# Altium schematic symbol library Ixora.SchLib: 333 symbols (part 2 of 3)
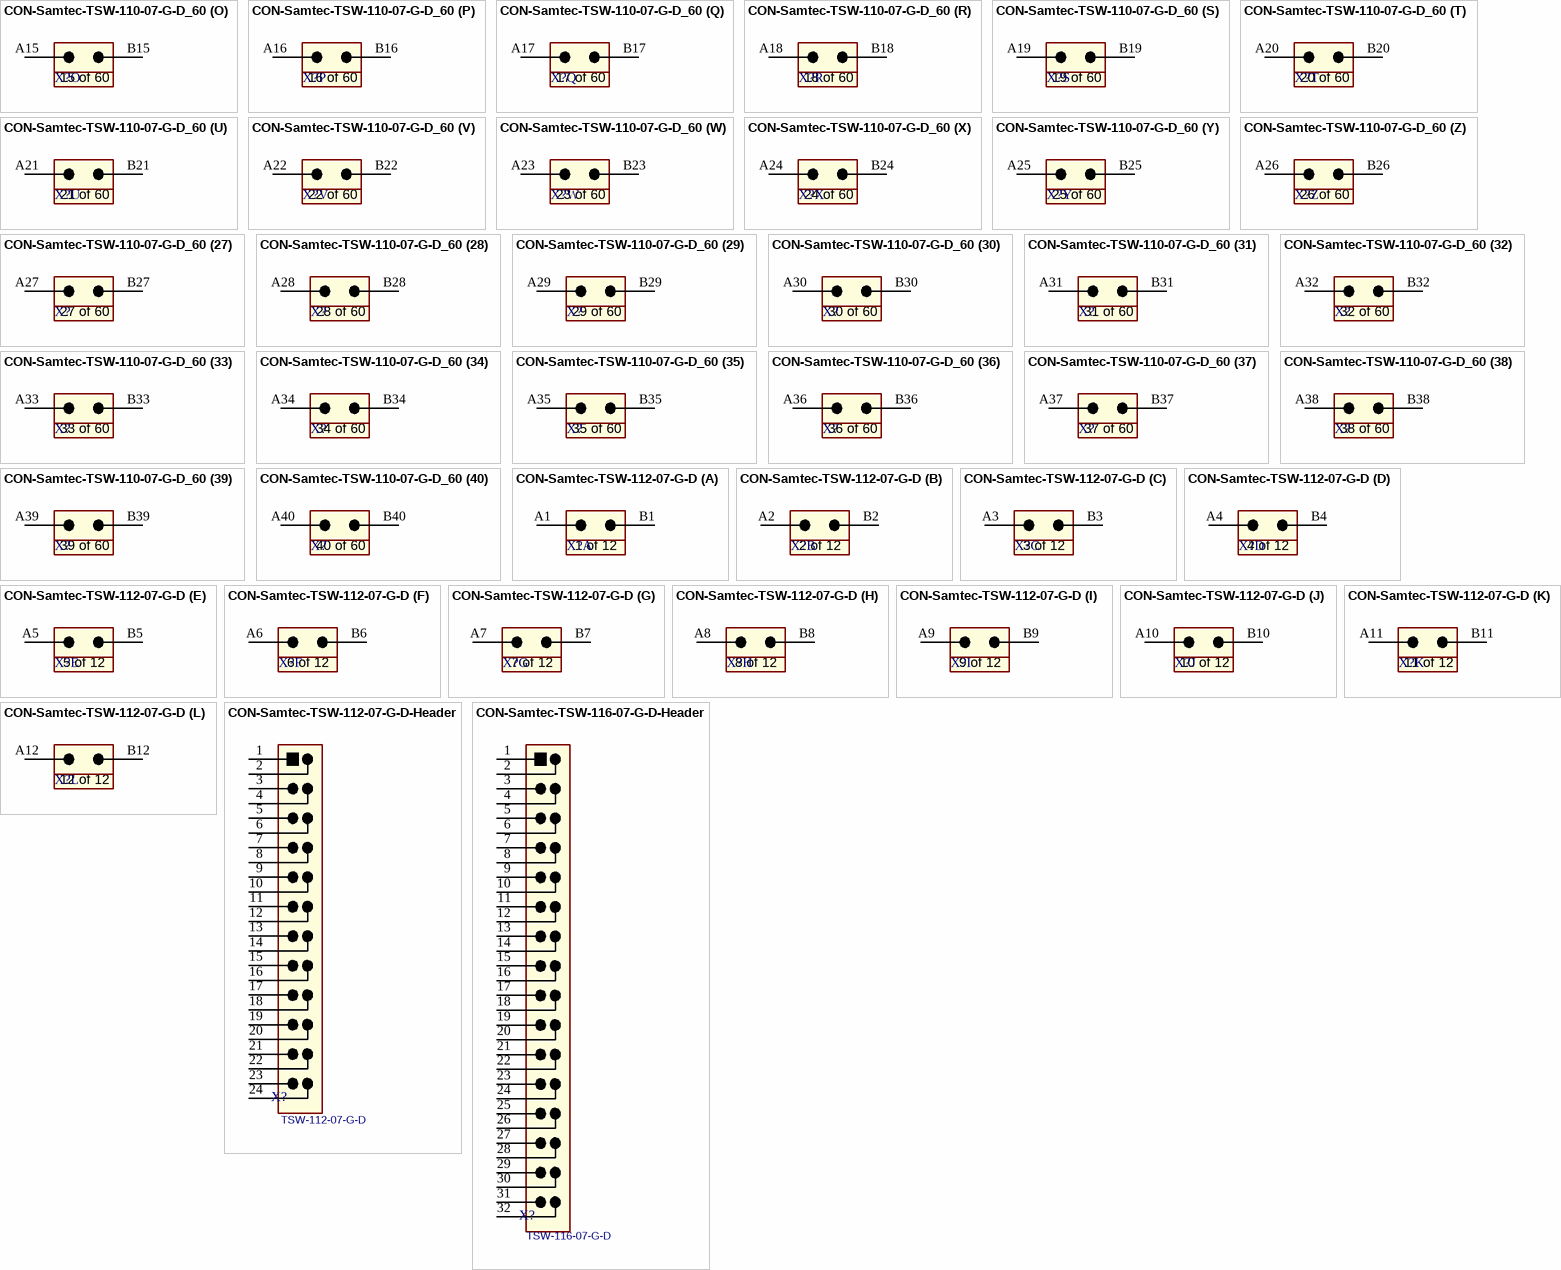
[diagram p23: symbols CON-Samtec-TSW-110-07-G-D_60 to CON-Samtec-TSW-116-07-G-D-Header]

## CON-Samtec-TSW-110-07-G-D_60
designator X?, comment TSW-110-07-G-D  (value not drawn)
Header 2x60 pin 2.54mm pitch; Manufacturer Name: Samtec; Pitch: 2.54mm; No. of ways: 2x60; Manufacturer Part No.: TSW-110-07-G-D
footprint T_Samtec_TSW-110-07-G-D (Header 2x50 pin 2.54mm pitch)
part A pins: A1, B1
part B pins: A2, B2
part C pins: A3, B3
part D pins: A4, B4
part E pins: A5, B5
part F pins: A6, B6
part G pins: A7, B7
part H pins: A8, B8
part I pins: A9, B9
part J pins: A10, B10
part K pins: A11, B11
part L pins: A12, B12
part M pins: A13, B13
part N pins: A14, B14
part O pins: A15, B15
part P pins: A16, B16
part Q pins: A17, B17
part R pins: A18, B18
part S pins: A19, B19
part T pins: A20, B20
part U pins: A21, B21
part V pins: A22, B22
part W pins: A23, B23
part X pins: A24, B24
part Y pins: A25, B25
part Z pins: A26, B26
part 27 pins: A27, B27
part 28 pins: A28, B28
part 29 pins: A29, B29
part 30 pins: A30, B30
part 31 pins: A31, B31
part 32 pins: A32, B32
part 33 pins: A33, B33
part 34 pins: A34, B34
part 35 pins: A35, B35
part 36 pins: A36, B36
part 37 pins: A37, B37
part 38 pins: A38, B38
part 39 pins: A39, B39
part 40 pins: A40, B40
part 41 pins: A41, B41
part 42 pins: A42, B42
part 43 pins: A43, B43
part 44 pins: A44, B44
part 45 pins: A45, B45
part 46 pins: A46, B46
part 47 pins: A47, B47
part 48 pins: A48, B48
part 49 pins: A49, B49
part 50 pins: A50, B50
part 51 pins: A51, B51
part 52 pins: A52, B52
part 53 pins: A53, B53
part 54 pins: A54, B54
part 55 pins: A55, B55
part 56 pins: A56, B56
part 57 pins: A57, B57
part 58 pins: A58, B58
part 59 pins: A59, B59
part 60 pins: A60, B60
part A text: 1 of 60
part B text: 2 of 60
part C text: 3 of 60
part D text: 4 of 60
part E text: 5 of 60
part F text: 6 of 60
part G text: 7 of 60
part H text: 8 of 60
part I text: 9 of 60
part J text: 10 of 60
part K text: 11 of 60
part L text: 12 of 60
part M text: 13 of 60
part N text: 14 of 60
part O text: 15 of 60
part P text: 16 of 60
part Q text: 17 of 60
part R text: 18 of 60
part S text: 19 of 60
part T text: 20 of 60
part U text: 21 of 60
part V text: 22 of 60
part W text: 23 of 60
part X text: 24 of 60
part Y text: 25 of 60
part Z text: 26 of 60
part 27 text: 27 of 60
part 28 text: 28 of 60
part 29 text: 29 of 60
part 30 text: 30 of 60
part 31 text: 31 of 60
part 32 text: 32 of 60
part 33 text: 33 of 60
part 34 text: 34 of 60
part 35 text: 35 of 60
part 36 text: 36 of 60
part 37 text: 37 of 60
part 38 text: 38 of 60
part 39 text: 39 of 60
part 40 text: 40 of 60
part 41 text: 41 of 60
part 42 text: 42 of 60
part 43 text: 43 of 60
part 44 text: 44 of 60
part 45 text: 45 of 60
part 46 text: 46 of 60
part 47 text: 47 of 60
part 48 text: 48 of 60
part 49 text: 49 of 60
part 50 text: 50 of 60
part 51 text: 51 of 60
part 52 text: 52 of 60
part 53 text: 53 of 60
part 54 text: 54 of 60
part 55 text: 55 of 60
part 56 text: 56 of 60
part 57 text: 57 of 60
part 58 text: 58 of 60
part 59 text: 59 of 60
part 60 text: 60 of 60

## CON-Samtec-TSW-112-07-G-D
designator X?, comment TSW-112-07-G-D  (value not drawn)
Header 2x12 pin 2.54mm pitch; Manufacturer Name: Samtec; Pitch: 2.54mm; No. of ways: 2x12; Manufacturer Part No.: TSW-112-07-G-D
footprint T_Samtec_TSW-112-07-G-D (Header, 2x12 Pins, 2.54 mm pitch, male)
part A pins: A1, B1
part B pins: A2, B2
part C pins: A3, B3
part D pins: A4, B4
part E pins: A5, B5
part F pins: A6, B6
part G pins: A7, B7
part H pins: A8, B8
part I pins: A9, B9
part J pins: A10, B10
part K pins: A11, B11
part L pins: A12, B12
part A text: 1 of 12
part B text: 2 of 12
part C text: 3 of 12
part D text: 4 of 12
part E text: 5 of 12
part F text: 6 of 12
part G text: 7 of 12
part H text: 8 of 12
part I text: 9 of 12
part J text: 10 of 12
part K text: 11 of 12
part L text: 12 of 12

## CON-Samtec-TSW-112-07-G-D-Header
designator X?, comment TSW-112-07-G-D
Header male, 2x12 Pins, 2.54 mm pitch; Manufacturer Name: Samtec; Pitch: 2.54 mm; No. of ways: 2x12; Manufacturer Part No.: TSW-112-07-G-D
footprint T_Samtec_TSW-112-07-G-D-HEADER (Footprint not found)
pins: 1, 2, 3, 4, 5, 6, 7, 8, 9, 10, 11, 12, 13, 14, 15, 16, 17, 18, 19, 20, 21, 22, 23, 24

## CON-Samtec-TSW-116-07-G-D-Header
designator X?, comment TSW-116-07-G-D
Header male, 2x16 Pins, 2.54 mm pitch; Manufacturer Name: Samtec; Pitch: 2.54 mm; No. of ways: 2x16; Manufacturer Part No.: TSW-116-07-G-D
footprint T_SAMTEC_TSW-116-07-G-D (Footprint not found)
pins: 1, 2, 3, 4, 5, 6, 7, 8, 9, 10, 11, 12, 13, 14, 15, 16, 17, 18, 19, 20, 21, 22, 23, 24, 25, 26, 27, 28, 29, 30, 31, 32

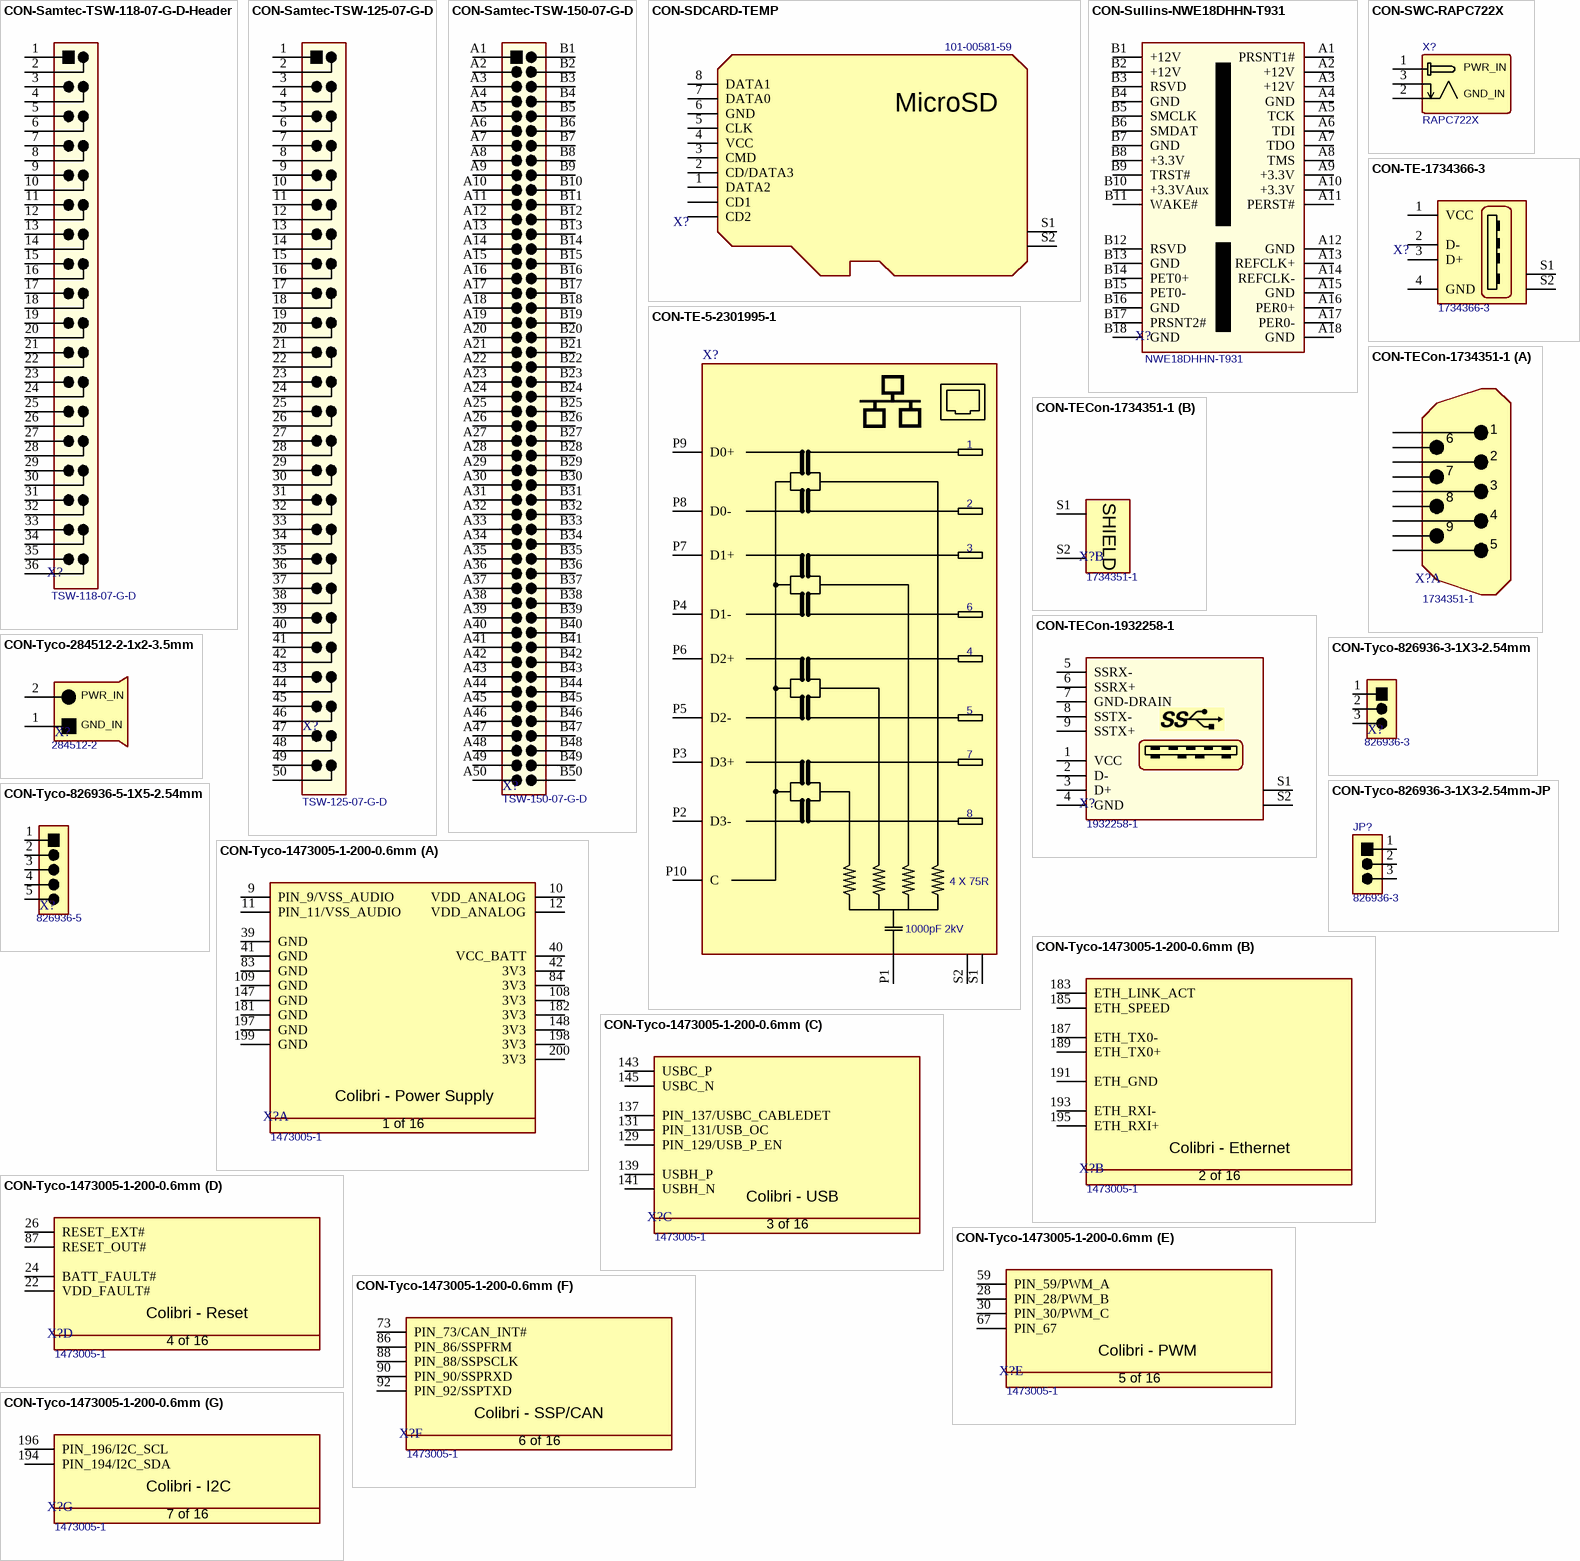
[diagram p14: symbols CON-Samtec-TSW-118-07-G-D-Header to CON-Tyco-1473005-1-200-0.6mm]

## CON-Samtec-TSW-118-07-G-D-Header
designator X?, comment TSW-118-07-G-D
Header male, 2x18 Pins, 2.54 mm pitch; Manufacturer Name: Samtec; Pitch: 2.54 mm; No. of ways: 2x18; Manufacturer Part No.: TSW-118-07-G-D
footprint T_SAMTEC_TSW-118-07-G-D (Header, 2x18 Pins, 2.54 mm pitch)
pins: 1, 2, 3, 4, 5, 6, 7, 8, 9, 10, 11, 12, 13, 14, 15, 16, 17, 18, 19, 20, 21, 22, 23, 24, 25, 26, 27, 28, 29, 30, 31, 32, 33, 34, 35, 36

## CON-Samtec-TSW-125-07-G-D
designator X?, comment TSW-125-07-G-D
Header, 2x25 Pins, 2.54 mm pitch; Manufacturer Name: Samtec; Pitch: 2.54mm; No. of ways: 2x25; Manufacturer Part No.: TSW-125-07-G-D
footprint T_SAMTEC_TSW-125-07-G-D (Header, 2x25 Pins, 2.54 mm pitch)
pins: 1, 2, 3, 4, 5, 6, 7, 8, 9, 10, 11, 12, 13, 14, 15, 16, 17, 18, 19, 20, 21, 22, 23, 24, 25, 26, 27, 28, 29, 30, 31, 32, 33, 34, 35, 36, 37, 38, 39, 40, 41, 42, 43, 44, 45, 46, 47, 48, 49, 50

## CON-Samtec-TSW-150-07-G-D
designator X?, comment TSW-150-07-G-D
Header 2x50 pin 2.54mm pitch; Manufacturer Name: Samtec; No. of ways: 2x10; Pitch: 2.54mm; Manufacturer Part No.: TSW-150-07-G-D
footprint T_Samtec_TSW-150-07-G-D (Header 2x50 pin 2.54mm pitch)
pins: A1, A2, A3, A4, A5, A6, A7, A8, A9, A10, A11, A12, A13, A14, A15, A16, A17, A18, A19, A20, A21, A22, A23, A24, A25, A26, A27, A28, A29, A30, A31, A32, A33, A34, A35, A36, A37, A38, A39, A40, A41, A42, A43, A44, A45, A46, A47, A48, A49, A50, B1, B2, B3, B4, B5, B6, B7, B8, B9, B10, B11, B12, B13, B14, B15, B16, B17, B18, B19, B20, B21, B22, B23, B24, B25, B26, B27, B28, B29, B30, B31, B32, B33, B34, B35, B36, B37, B38, B39, B40, B41, B42, B43, B44, B45, B46, B47, B48, B49, B50

## CON-SDCARD-TEMP
designator X?, comment Manufacturer Part No.: 101-00581-59  (hidden comment: MicroSD Holder)
Micro SD Holder Push Push CD; Manufacturer Name: Ampenol; No. of ways: 9
footprint T_SD_CARD_TEMP
pins: 1 DATA2 (power), 2 CD/DATA3, 3 CMD, 4 VCC, 5 CLK (power), 6 GND (power), 7 DATA0 (power), 8 DATA1 (power), CD1 (power), CD2 (power), S1 S, S2 S
text: MicroSD

## CON-Sullins-NWE18DHHN-T931
designator X?, comment NWE18DHHN-T931
PCI EXPRESS 36POS; Manufacturer Name: Sullins; No. of ways: 36; Manufacturer Part No.: NWE18DHHN-T931
footprint T_Sullins_NWE18DHHN-T931 (PCIe X1 Slot)
pins: A1 PRSNT1#, A2 +12V, A3 +12V, A4 GND, A5 TCK, A6 TDI, A7 TDO, A8 TMS, A9 +3.3V, A10 +3.3V, A11 PERST#, A12 GND, A13 REFCLK+, A14 REFCLK-, A15 GND, A16 PER0+, A17 PER0-, A18 GND, B1 +12V, B2 +12V, B3 RSVD, B4 GND, B5 SMCLK, B6 SMDAT, B7 GND, B8 +3.3V, B9 TRST#, B10 +3.3VAux, B11 WAKE#, B12 RSVD, B13 GND, B14 PET0+, B15 PET0-, B16 GND, B17 PRSNT2#, B18 GND

## CON-SWC-RAPC722X
designator X?, comment RAPC722X
Power Jack; Manufacturer Name: SWC; Manufacturer Part No.: RAPC722X
footprint T_RAPC722X (Connector, 2.1mm (Dia), 5.5mm(Dia), Round Power Socket)
pins: 1 GND_IN, 2 PWR_IN, 3 PWR_IN

## CON-TE-5-2301995-1
designator X?, comment 5-2301995-1  (value not drawn)
Vertical 10/100/1G Mag Jack; Manufacturer Part No.: 5-2301995-1
footprint 5-2301995-4 (Ethernet Connector vertiacal)
pins: P1 S, P2 D3-, P3 D3+, P4 D1-, P5 D2-, P6 D2+, P7 D1+, P8 D0-, P9 D0+, P10 C, S1 S, S2 S
text: 1; 2; 3; 6; 4; 5; 7; 8; 4 X 75R; 1000pF 2kV

## CON-TE-1734366-3
designator X?  Manufacturer Part No.: 1734366-3
USB Type A Connector Vertical; Manufacturer Name: TE
footprint 1734366-3 (USB Header Vertical)
pins: 1 VCC (power), 2 D-, 3 D+, 4 GND (power), S1, S2

## CON-TECon-1734351-1
designator X?, comment 1734351-1
9 pin male D-SUB connector; Manufacturer Name: TE Connectivity; No. of ways: 9; Manufacturer Part No.: 1734351-1
footprint T_TECon_1734351-1 (9 pin male D-SUB connector)
part A pins: 1 DCD, 2 RXD, 3 TXD, 4 DTR, 5 GND, 6 DSR, 7 RTS, 8 CTS, 9 RI
part B pins: S1 SHIELD, S2 SHIELD

## CON-TECon-1932258-1
designator X?, comment 1932258-1
USB 3.0, Type A; Manufacturer Name: TE Connectivity; No. of ways: 9; Manufacturer Part No.: 1932258-1
footprint T_TE_1932258-1 (USB 3.0, Type A)
pins: 1 VCC (power), 2 D-, 3 D+, 4 GND (power), 5 SSRX- (power), 6 SSRX+ (power), 7 GND-DRAIN (power), 8 SSTX- (power), 9 SSTX+ (power), S1 SHIELD, S2 SHIELD

## CON-Tyco-284512-2-1x2-3.5mm
designator X?, comment 284512-2
Power Connector; Manufacturer Name: Tyco; No. of ways: 1x2; Pitch: 3.5mm; Manufacturer Part No.: 284512-2
footprint T_TYCO_284512-2 (Power Connector 3.5mm)
pins: 1 GND_IN, 2 PWR_IN

## CON-Tyco-826936-3-1X3-2.54mm
designator X?, comment 826936-3
Header, 3-Pin; Manufacturer Name: Tyco; No. of ways: 1X3; Pitch: 2.54mm; Manufacturer Part No.: 826936-3
footprint T_TYCO_826936-3 (Connector; Header; 3 Position)
pins: 1, 2, 3

## CON-Tyco-826936-3-1X3-2.54mm-JP
designator JP?, comment 826936-3
Jumper, 3-Pin; Manufacturer Name: Tyco; No. of ways: 1X3; Pitch: 2.54mm; Manufacturer Part No.: 826936-3
footprint T_TYCO_826936-3 (Connector; Header; 3 Position)
pins: 1, 2, 3

## CON-Tyco-826936-5-1X5-2.54mm
designator X?, comment 826936-5
Header, 5-Pin; Manufacturer Name: Tyco; No. of ways: 1X5; Pitch: 2.54mm; Manufacturer Part No.: 826936-5
footprint T_TYCO_826936-5 (Connector, Header, 4 Position, 2.54mm pitch)
pins: 1, 2, 3, 4, 5

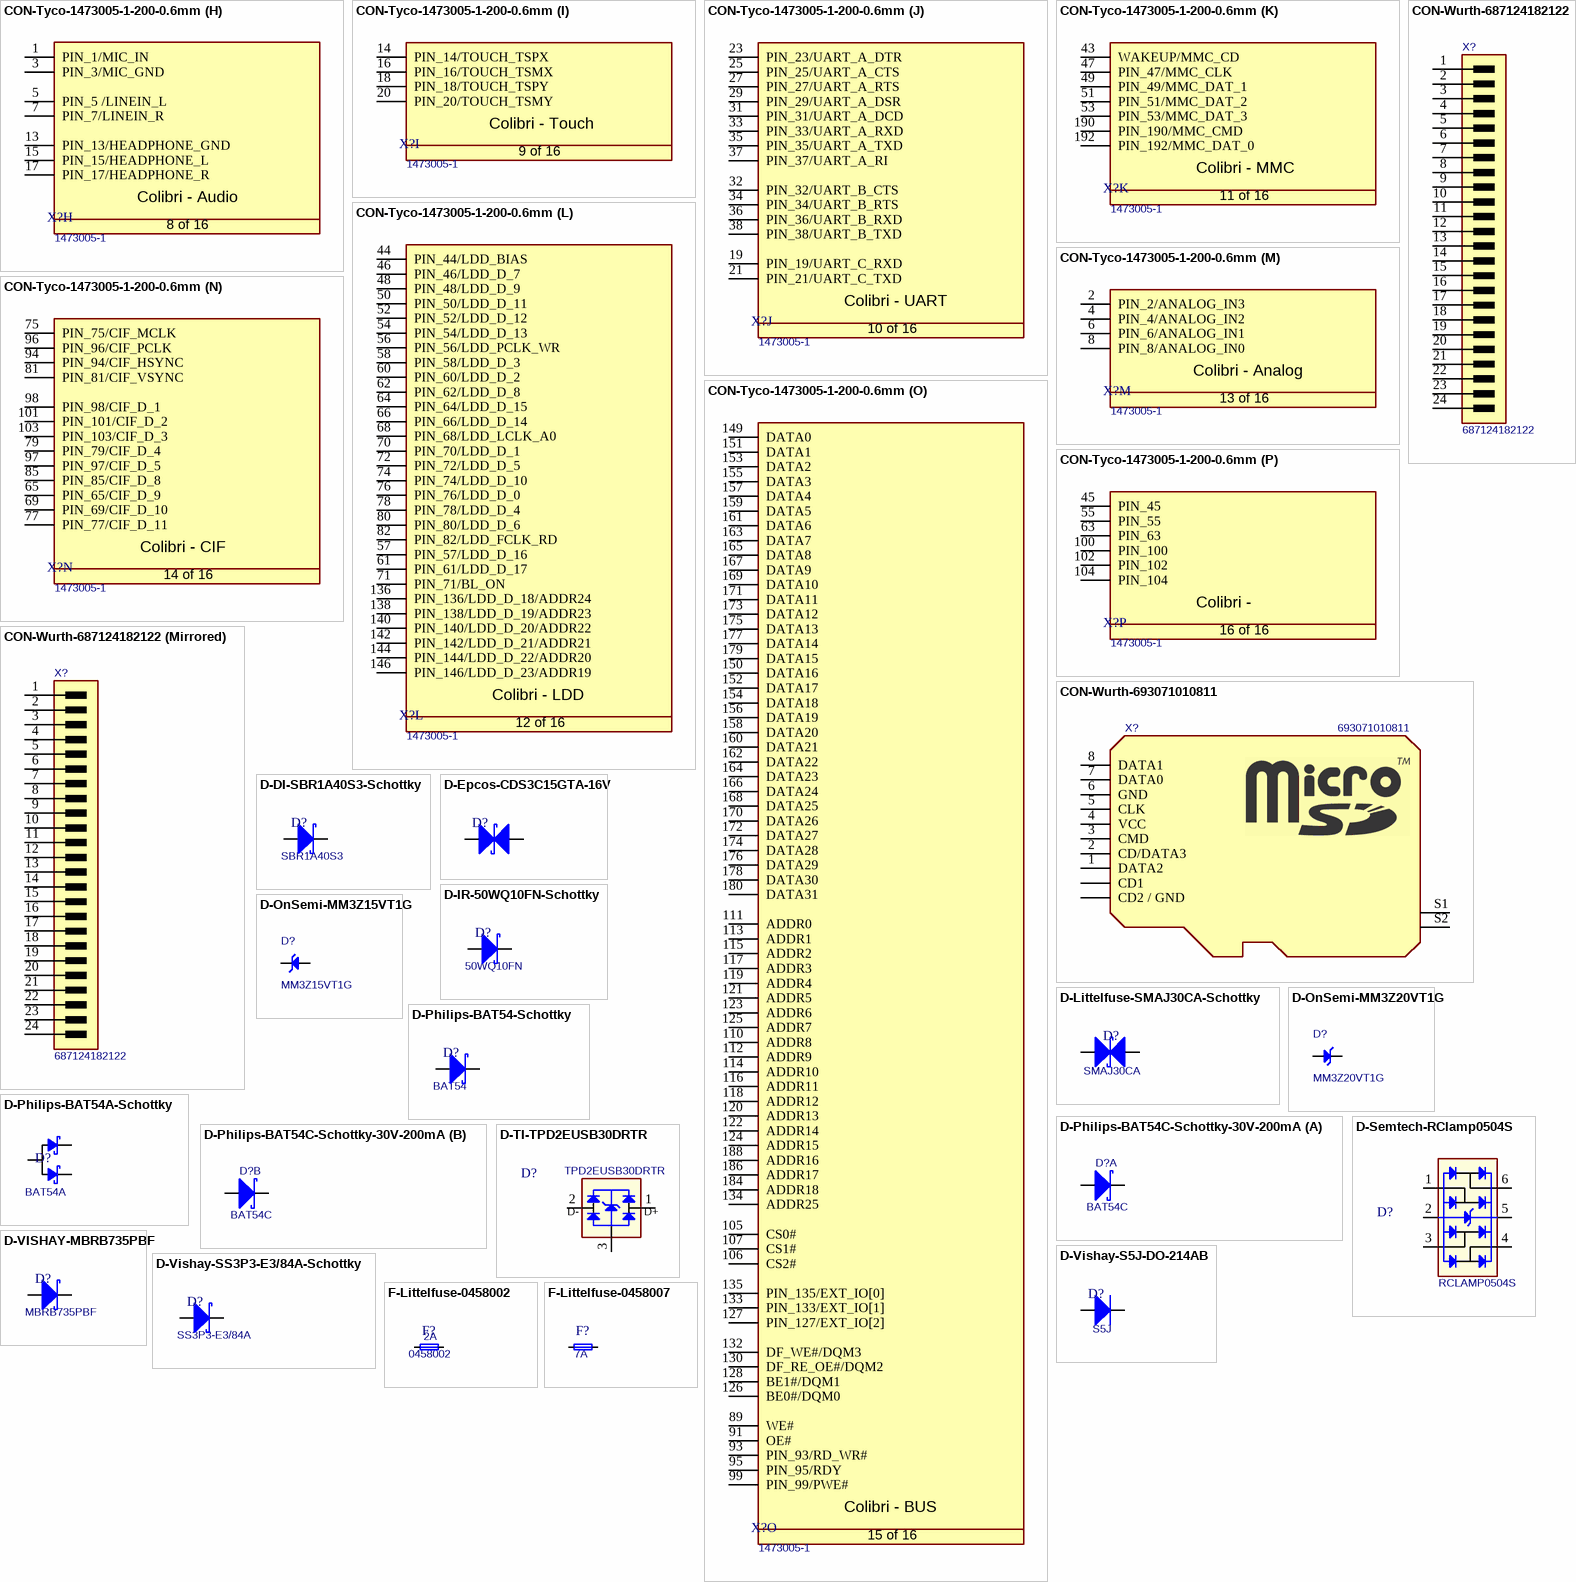
[diagram p15: symbols CON-Tyco-1473005-1-200-0.6mm to F-Littelfuse-0458007]

## CON-Tyco-1473005-1-200-0.6mm
designator X?  Manufacturer Part No.: 1473005-1  (hidden comment: CON-Tyco-1473005-1-200-0.6mm)
SODIMM Connector; Manufacturer Name: Tyco; No. of ways: 200
footprint T_Tyco_1473005-1 (SODIMM Connector)
part A pins: 9 PIN_9/VSS_AUDIO, 10 VDD_ANALOG, 11 PIN_11/VSS_AUDIO, 12 VDD_ANALOG, 39 GND (power), 40 VCC_BATT (power), 41 GND (power), 42 3V3 (power), 83 GND (power), 84 3V3 (power), 108 3V3, 109 GND (power), 147 GND (power), 148 3V3, 181 GND (power), 182 3V3 (power), 197 GND (power), 198 3V3 (power), 199 GND (power), 200 3V3 (power)
part B pins: 183 ETH_LINK_ACT, 185 ETH_SPEED, 187 ETH_TX0-, 189 ETH_TX0+, 191 ETH_GND, 193 ETH_RXI-, 195 ETH_RXI+
part C pins: 129 PIN_129/USB_P_EN, 131 PIN_131/USB_OC, 137 PIN_137/USBC_CABLEDET, 139 USBH_P, 141 USBH_N, 143 USBC_P, 145 USBC_N
part D pins: 22 VDD_FAULT#, 24 BATT_FAULT#, 26 RESET_EXT#, 87 RESET_OUT#
part E pins: 28 PIN_28/PWM_B, 30 PIN_30/PWM_C, 59 PIN_59/PWM_A, 67 PIN_67
part F pins: 73 PIN_73/CAN_INT#, 86 PIN_86/SSPFRM, 88 PIN_88/SSPSCLK, 90 PIN_90/SSPRXD, 92 PIN_92/SSPTXD
part G pins: 194 PIN_194/I2C_SDA, 196 PIN_196/I2C_SCL
part H pins: 1 PIN_1/MIC_IN, 3 PIN_3/MIC_GND, 5 PIN_5 /LINEIN_L, 7 PIN_7/LINEIN_R, 13 PIN_13/HEADPHONE_GND, 15 PIN_15/HEADPHONE_L, 17 PIN_17/HEADPHONE_R
part I pins: 14 PIN_14/TOUCH_TSPX, 16 PIN_16/TOUCH_TSMX, 18 PIN_18/TOUCH_TSPY, 20 PIN_20/TOUCH_TSMY
part J pins: 19 PIN_19/UART_C_RXD, 21 PIN_21/UART_C_TXD, 23 PIN_23/UART_A_DTR, 25 PIN_25/UART_A_CTS, 27 PIN_27/UART_A_RTS, 29 PIN_29/UART_A_DSR, 31 PIN_31/UART_A_DCD, 32 PIN_32/UART_B_CTS, 33 PIN_33/UART_A_RXD, 34 PIN_34/UART_B_RTS, 35 PIN_35/UART_A_TXD, 36 PIN_36/UART_B_RXD, 37 PIN_37/UART_A_RI, 38 PIN_38/UART_B_TXD
part K pins: 43 WAKEUP/MMC_CD, 47 PIN_47/MMC_CLK, 49 PIN_49/MMC_DAT_1, 51 PIN_51/MMC_DAT_2, 53 PIN_53/MMC_DAT_3, 190 PIN_190/MMC_CMD, 192 PIN_192/MMC_DAT_0
part L pins: 44 PIN_44/LDD_BIAS, 46 PIN_46/LDD_D_7, 48 PIN_48/LDD_D_9, 50 PIN_50/LDD_D_11, 52 PIN_52/LDD_D_12, 54 PIN_54/LDD_D_13, 56 PIN_56/LDD_PCLK_WR, 57 PIN_57/LDD_D_16, 58 PIN_58/LDD_D_3, 60 PIN_60/LDD_D_2, 61 PIN_61/LDD_D_17, 62 PIN_62/LDD_D_8, 64 PIN_64/LDD_D_15, 66 PIN_66/LDD_D_14, 68 PIN_68/LDD_LCLK_A0, 70 PIN_70/LDD_D_1, 71 PIN_71/BL_ON, 72 PIN_72/LDD_D_5, 74 PIN_74/LDD_D_10, 76 PIN_76/LDD_D_0, 78 PIN_78/LDD_D_4, 80 PIN_80/LDD_D_6, 82 PIN_82/LDD_FCLK_RD, 136 PIN_136/LDD_D_18/ADDR24, 138 PIN_138/LDD_D_19/ADDR23, 140 PIN_140/LDD_D_20/ADDR22, 142 PIN_142/LDD_D_21/ADDR21, 144 PIN_144/LDD_D_22/ADDR20, 146 PIN_146/LDD_D_23/ADDR19
part M pins: 2 PIN_2/ANALOG_IN3, 4 PIN_4/ANALOG_IN2, 6 PIN_6/ANALOG_IN1, 8 PIN_8/ANALOG_IN0
part N pins: 65 PIN_65/CIF_D_9, 69 PIN_69/CIF_D_10, 75 PIN_75/CIF_MCLK, 77 PIN_77/CIF_D_11, 79 PIN_79/CIF_D_4, 81 PIN_81/CIF_VSYNC, 85 PIN_85/CIF_D_8, 94 PIN_94/CIF_HSYNC, 96 PIN_96/CIF_PCLK, 97 PIN_97/CIF_D_5, 98 PIN_98/CIF_D_1, 101 PIN_101/CIF_D_2, 103 PIN_103/CIF_D_3
part O pins: 89 WE#, 91 OE#, 93 PIN_93/RD_WR#, 95 PIN_95/RDY, 99 PIN_99/PWE#, 105 CS0#, 106 CS2#, 107 CS1#, 110 ADDR8, 111 ADDR0, 112 ADDR9, 113 ADDR1, 114 ADDR10, 115 ADDR2, 116 ADDR11, 117 ADDR3, 118 ADDR12, 119 ADDR4, 120 ADDR13, 121 ADDR5, 122 ADDR14, 123 ADDR6, 124 ADDR15, 125 ADDR7, 126 BE0#/DQM0, 127 PIN_127/EXT_IO[2], 128 BE1#/DQM1, 130 DF_RE_OE#/DQM2, 132 DF_WE#/DQM3, 133 PIN_133/EXT_IO[1], 134 ADDR25, 135 PIN_135/EXT_IO[0], 149 DATA0, 150 DATA16, 151 DATA1, 152 DATA17, 153 DATA2, 154 DATA18, 155 DATA3, 156 DATA19, 157 DATA4, 158 DATA20, 159 DATA5, 160 DATA21, 161 DATA6, 162 DATA22, 163 DATA7, 164 DATA23, 165 DATA8, 166 DATA24, 167 DATA9, 168 DATA25, 169 DATA10, 170 DATA26, 171 DATA11, 172 DATA27, 173 DATA12, 174 DATA28, 175 DATA13, 176 DATA29, 177 DATA14, 178 DATA30, 179 DATA15, 180 DATA31, 184 ADDR18, 186 ADDR17, 188 ADDR16
part P pins: 45 PIN_45, 55 PIN_55, 63 PIN_63, 100 PIN_100, 102 PIN_102, 104 PIN_104
part A text: Colibri - Power Supply; 1 of 16
part B text: Colibri - Ethernet; 2 of 16
part C text: Colibri - USB; 3 of 16
part D text: Colibri - Reset; 4 of 16
part E text: Colibri - PWM; 5 of 16
part F text: Colibri - SSP/CAN; 6 of 16
part G text: Colibri - I2C; 7 of 16
part H text: Colibri - Audio; 8 of 16
part I text: Colibri - Touch; 9 of 16
part J text: Colibri - UART; 10 of 16
part K text: Colibri - MMC; 11 of 16
part L text: Colibri - LDD; 12 of 16
part M text: Colibri - Analog; 13 of 16
part N text: Colibri - CIF; 14 of 16
part O text: Colibri - BUS; 15 of 16
part P text: Colibri -; 16 of 16

## CON-Wurth-687124182122
designator X?, comment 687124182122
FFC/FPC Connector, 24 Position, Top and Bottom 0.020" (0.50mm) Surface Mount, Right Angle; Manufacturer Name: Wurth; No. of ways: 24; Pitch: 0.5mm; Manufacturer Part No.: 687124182122
footprint T_Wurth_687124182122 (FPC Connector, 24 Position, Top and Bottom 0.020" (0.50mm) Surface Mount, Right Angle)
pins: 1, 2, 3, 4, 5, 6, 7, 8, 9, 10, 11, 12, 13, 14, 15, 16, 17, 18, 19, 20, 21, 22, 23, 24

## CON-Wurth-687124182122 (Mirrored)
designator X?, comment 687124182122
FFC/FPC Connector, 24 Position, Top and Bottom 0.020" (0.50mm) Surface Mount, Right Angle; Manufacturer Name: Wurth; No. of ways: 24; Pitch: 0.5mm; Manufacturer Part No.: 687124182122
footprint T_Wurth_687124182122 (Mirrored) (FPC Connector(Mirrored), 24 Position, Top and Bottom 0.020" (0.50mm) Surface Mount, Right Angle)
pins: 1, 2, 3, 4, 5, 6, 7, 8, 9, 10, 11, 12, 13, 14, 15, 16, 17, 18, 19, 20, 21, 22, 23, 24

## CON-Wurth-693071010811
designator X?, comment Manufacturer Part No.: 693071010811  (hidden comment: MicroSD Holder)
Micro SD Holder Push Push CD; Manufacturer Name: Wurth; No. of ways: 9
footprint T_Wurth_693071010811 (MicroSD Holder, Push-Pust Type,)
pins: 1 DATA2 (power), 2 CD/DATA3, 3 CMD, 4 VCC, 5 CLK (power), 6 GND (power), 7 DATA0 (power), 8 DATA1 (power), CD1 (power), CD2 CD2 / GND (power), S1 S, S2 S

## D-DI-SBR1A40S3-Schottky
designator D?  Manufacturer Part No.: SBR1A40S3
SUPER BARRIER RECTIFIER Schottky Diode; Manufacturer Name: Diodes Incorporated
footprint TO228P1003X238-3N
pins: 1, 3

## D-Epcos-CDS3C15GTA-16V
designator D?
Bidirectional ESD protection; Manufacturer Name: Epcos; Manufacturer Part No.: CDS3C15GTA
footprint T_Epcos_CDS3C15GTA (Bidirectional ESD Protection)
pins: P1 GND, P2 I/O line

## D-IR-50WQ10FN-Schottky
designator D?  Manufacturer Part No.: 50WQ10FN
Schottky Diode; Manufacturer Name: International Rectifier
footprint TO228P1003X238-3N
pins: 1, 3

## D-Littelfuse-SMAJ30CA-Schottky
designator D?  Manufacturer Part No.: SMAJ30CA
Bidirectional ESD protection; Manufacturer Name: Littelfuse
footprint T_LITTLEFUSE_SMAJ30CA (Bidirectional ESD protection)
pins: 1 Cathode, 2 Anode

## D-OnSemi-MM3Z15VT1G
designator D?, comment MM3Z15VT1G
Zener Diode, Vz=15V, 300mW, SOD-323; Manufacturer Name: OnSemi; Manufacturer Part No.: MM3Z15VT1G
footprint T_SOD-323 (SOD-323, SMD, 2 pins)
pins: 1 C (power), 2 A (power)

## D-OnSemi-MM3Z20VT1G
designator D?, comment MM3Z20VT1G
Zener Diode, Vz=20V, 300mW, SOD-323; Manufacturer Name: OnSemi; Manufacturer Part No.: MM3Z20VT1G
footprint T_SOD-323 (SOD-323, SMD, 2 pins)
pins: 1 C (power), 2 A (power)

## D-Philips-BAT54-Schottky
designator D?, comment BAT54
BAT54 Schottky Diode; Manufacturer Name: Philips; Manufacturer Part No.: BAT54
footprint SOT95P230X110-3N
pins: 1, 3

## D-Philips-BAT54A-Schottky
designator D?, comment BAT54A
BAT54A Schottky Diode; Manufacturer Name: Philips; Manufacturer Part No.: BAT54A
footprint SOT95P230X110-3N
pins: 1, 2, 3

## D-Philips-BAT54C-Schottky-30V-200mA
designator D?, comment BAT54C
BAT54 Schottky Diode; Manufacturer: Philips; Manufacturer Part Number: BAT54C
footprint SOT95P230X110-3N
part A pins: 1, 3
part B pins: 2, 3

## D-Semtech-RClamp0504S
designator D?, comment RCLAMP0504S
TVS Array low cap; Manufacturer Name: Semtech; Manufacturer Part No.: RCLAMP0504S
footprint T_SOT95P285X90-6N (Footprint not found)
pins: 1 (power), 2 (power), 3 (power), 4 (power), 5 (power), 6 (power)

## D-TI-TPD2EUSB30DRTR
designator D?, comment TPD2EUSB30DRTR
2 Channel Protection for Super Speed USB3.0; Manufacturer Name: TI; Manufacturer Part No.: TPD2EUSB30DRTR
footprint T_TI_TPD2EUSB30DRTR (2 CHANNEL PROTECTION SOLUTION FOR SUPER-SPEED)
pins: 1 D+ (power), 2 D- (power), 3 (power)

## D-VISHAY-MBRB735PBF
designator D?, comment MBRB735PBF
MBRB735PBF Schottky Diode; Manufacturer Name: Vishay; Manufacturer Part No.: MBRB735PBF
footprint T_VISHAY_MBRB735PBF
pins: 2, 3

## D-Vishay-S5J-DO-214AB
designator D?, comment S5J
Vishay S5J Rectifier; Manufacturer Name: Vishay; Manufacturer Part No.: S5J
footprint T_VISHAY_S5J (5A Rectifier)
pins: 1, 2

## D-Vishay-SS3P3-E3/84A-Schottky
designator D?, comment Manufacturer Part No.: SS3P3-E3/84A  (hidden comment: SS3P3)
SS3P3-E3/84A Schottky Diode; Manufacturer Name: Vishay
footprint T_VISHAY_SS3P3 (Schottky Barrier Rectifiers. 2-Leads, Body 3.7x1.88mm)
pins: 1, 2

## F-Littelfuse-0458002
designator F?, comment Manufacturer Part No.: 0458002  (hidden comment: 2A)
Fuse 2A Fast; Manufacturer Name: Littelfuse; Value: 2A
footprint T_Littelfuse_0458 (Fast Fuse)
pins: 1, 2

## F-Littelfuse-0458007
designator F?, comment 7A
Fuse 7A Fast; Manufacturer Part No.: 0458007; Manufacturer Name: Littelfuse; Value: 7A
footprint T_Littelfuse_0458 (Fast Fuse)
pins: 1, 2

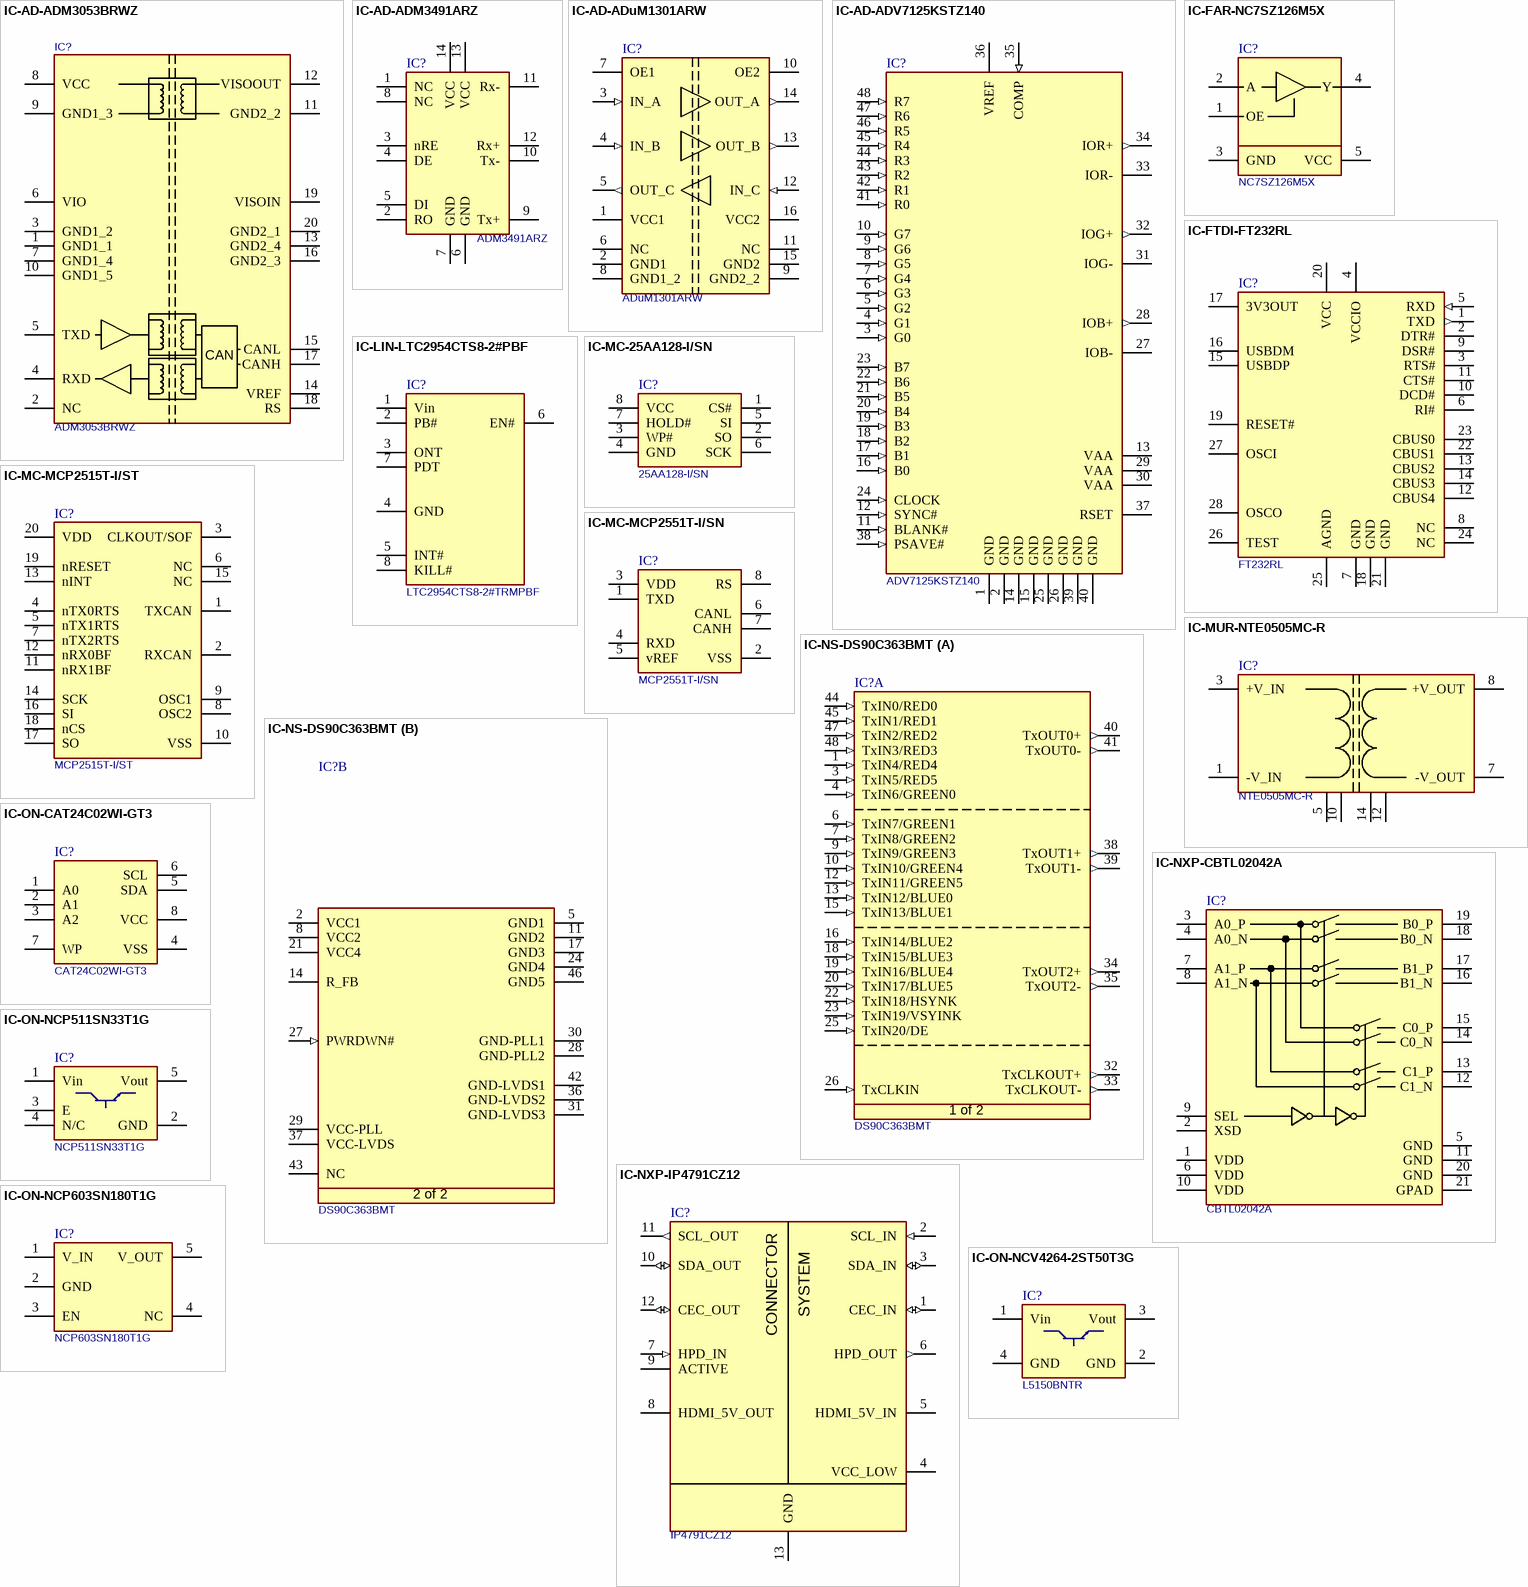
[diagram p16: symbols IC-AD-ADM3053BRWZ to IC-ON-NCV4264-2ST50T3G]

## IC-AD-ADM3053BRWZ
designator IC?, comment ADM3053BRWZ
Signal and Power Isolated CAN Transceiver  with Integrated Isolated DC-to-DC Converter; Manufacturer Name: Analog Devices; Manufacturer Part No.: ADM3053BRWZ
footprint T_AD_ADM3053 (Signal and Power Isolated CAN Transceiver  with Integrated Isolated DC-to-DC Converter)
pins: 1 GND1_1, 2 NC, 3 GND1_2, 4 RXD, 5 TXD, 6 VIO, 7 GND1_4, 8 VCC, 9 GND1_3, 10 GND1_5, 11 GND2_2, 12 VISOOUT, 13 GND2_4, 14 VREF, 15 CANL, 16 GND2_3, 17 CANH, 18 RS, 19 VISOIN, 20 GND2_1
text: CAN

## IC-AD-ADM3491ARZ
designator IC?, comment ADM3491ARZ
ADM3491ARZ RS-485/RS-422 transceiver; Manufacturer Name: Analog Devices; Manufacturer Part No.: ADM3491ARZ
footprint SOIC127P600X175-14N (SOIC 14 pin)
pins: 1 NC, 2 RO, 3 nRE, 4 DE, 5 DI, 6 GND, 7 GND, 8 NC, 9 Tx+, 10 Tx-, 11 Rx-, 12 Rx+, 13 VCC, 14 VCC

## IC-AD-ADuM1301ARW
designator IC?, comment ADuM1301ARW
Digital Isolator; Manufacturer Name: Analog Devices; Manufacturer Part No.: ADuM1301ARW
footprint T_AD_ADuM1300ARW (SOIC _W 16 pin)
pins: 1 VCC1, 2 GND1 (power), 3 IN_A (in), 4 IN_B (in), 5 OUT_C (out), 6 NC, 7 OE1, 8 GND1_2 (power), 9 GND2_2 (power), 10 OE2, 11 NC, 12 IN_C (in), 13 OUT_B (out), 14 OUT_A (out), 15 GND2 (power), 16 VCC2

## IC-AD-ADV7125KSTZ140
designator IC?, comment ADV7125KSTZ140
Video DAC 8bit 140MHz; Manufacturer Name: Analog Devices; Manufacturer Part No.: ADV7125KSTZ140
footprint QFP50P900X900X120-48N
pins: 1 GND (power), 2 GND (power), 3 G0 (in), 4 G1 (in), 5 G2 (in), 6 G3 (in), 7 G4 (in), 8 G5 (in), 9 G6 (in), 10 G7 (in), 11 BLANK# (in), 12 SYNC# (in), 13 VAA (power), 14 GND (power), 15 GND (power), 16 B0 (in), 17 B1 (in), 18 B2 (in), 19 B3 (in), 20 B4 (in), 21 B5 (in), 22 B6 (in), 23 B7 (in), 24 CLOCK (in), 25 GND (power), 26 GND (power), 27 IOB- (power), 28 IOB+ (out), 29 VAA (power), 30 VAA (power), 31 IOG- (power), 32 IOG+ (out), 33 IOR- (power), 34 IOR+ (out), 35 COMP (in), 36 VREF (power), 37 RSET, 38 PSAVE# (in), 39 GND (power), 40 GND (power), 41 R0 (in), 42 R1 (in), 43 R2 (in), 44 R3 (in), 45 R4 (in), 46 R5 (in), 47 R6 (in), 48 R7 (in)

## IC-FAR-NC7SZ126M5X
designator IC?, comment NC7SZ126M5X
NC7SZ126M5X  Buffer Three-State Output; Manufacturer Name: Fairchild Semiconductor; Manufacturer Part No.: NC7SZ126M5X
footprint SOT95P279X142-5N
pins: 1 OE, 2 A, 3 GND, 4 Y, 5 VCC

## IC-FTDI-FT232RL
designator IC?, comment FT232RL
FT232R USB TO UART; Manufacturer Name: FTDI; Manufacturer Part No.: FT232RL
footprint T_FTDI_FT232RL (28-Pin SSOP 0.65 mm Pitch)
pins: 1 TXD (out), 2 DTR#, 3 RTS#, 4 VCCIO, 5 RXD (in), 6 RI#, 7 GND, 8 NC, 9 DSR#, 10 DCD#, 11 CTS#, 12 CBUS4, 13 CBUS2, 14 CBUS3, 15 USBDP, 16 USBDM, 17 3V3OUT, 18 GND, 19 RESET#, 20 VCC, 21 GND, 22 CBUS1, 23 CBUS0, 24 NC, 25 AGND, 26 TEST, 27 OSCI, 28 OSCO

## IC-LIN-LTC2954CTS8-2#PBF
designator IC?, comment LTC2954CTS8-2#TRMPBF
Push Button On/Off Controller; Manufacturer Name: Linear; Manufacturer Part No.: LTC2954CTS8-2#TRMPBF
footprint T_LINEAR_LTC2954CTS8-2#PBF
pins: 1 Vin, 2 PB#, 3 ONT, 4 GND, 5 INT#, 6 EN#, 7 PDT, 8 KILL#

## IC-MC-25AA128-I/SN
designator IC?, comment 25AA128-I/SN
128K SPI Bus Serial EEPROM; Manufacturer Name: Microchip; Manufacturer Part No.: 25AA128-I/SN
footprint SOIC127P600X173-8N
pins: 1 CS#, 2 SO, 3 WP#, 4 GND, 5 SI, 6 SCK, 7 HOLD#, 8 VCC

## IC-MC-MCP2515T-I/ST
designator IC?, comment Manufacturer Part No.: MCP2515T-I/ST  (hidden comment: MCP2515)
CAN controller with SPI Interface; Manufacturer Name: Microchip
footprint T_MC_MCP2515T-I/ST (TSSOP20)
pins: 1 TXCAN, 2 RXCAN, 3 CLKOUT/SOF, 4 nTX0RTS, 5 nTX1RTS, 6 NC, 7 nTX2RTS, 8 OSC2, 9 OSC1, 10 VSS (power), 11 nRX1BF, 12 nRX0BF, 13 nINT, 14 SCK, 15 NC, 16 SI, 17 SO, 18 nCS, 19 nRESET, 20 VDD

## IC-MC-MCP2551T-I/SN
designator IC?, comment MCP2551T-I/SN
High speed CAN Transceiver; Manufacturer Name: Microchip; Manufacturer Part No.: MCP2551T-I/SN
footprint SOIC127P600X173-8N
pins: 1 TXD, 2 VSS, 3 VDD, 4 RXD, 5 vREF, 6 CANL, 7 CANH, 8 RS

## IC-MUR-NTE0505MC-R
designator IC?, comment NTE0505MC-R
Isolated DC/DC Converter; Manufacturer Name: Murata; Manufacturer Part No.: NTE0505MC-R
footprint T_MURATA_NTE0505MC-R (Isolated DC/DC converter)
pins: 1 -V_IN (power), 3 +V_IN (power), 5 NC, 7 -V_OUT (power), 8 +V_OUT (power), 10 NC, 12 NC, 14 NC

## IC-NS-DS90C363BMT
designator IC?, comment DS90C363BMT
LVDS Converter; Manufacturer Name: National Semiconductor; Manufacturer Part No.: DS90C363BMT
footprint SOP50P810X120-48N
part A pins: 1 TxIN4/RED4 (in), 3 TxIN5/RED5 (in), 4 TxIN6/GREEN0 (in), 6 TxIN7/GREEN1 (in), 7 TxIN8/GREEN2 (in), 9 TxIN9/GREEN3 (in), 10 TxIN10/GREEN4 (in), 12 TxIN11/GREEN5 (in), 13 TxIN12/BLUE0 (in), 15 TxIN13/BLUE1 (in), 16 TxIN14/BLUE2 (in), 18 TxIN15/BLUE3 (in), 19 TxIN16/BLUE4 (in), 20 TxIN17/BLUE5 (in), 22 TxIN18/HSYNK (in), 23 TxIN19/VSYINK (in), 25 TxIN20/DE (in), 26 TxCLKIN (in), 32 TxCLKOUT+ (out), 33 TxCLKOUT- (out), 34 TxOUT2+ (out), 35 TxOUT2- (out), 38 TxOUT1+ (out), 39 TxOUT1- (out), 40 TxOUT0+ (out), 41 TxOUT0- (out), 44 TxIN0/RED0 (in), 45 TxIN1/RED1 (in), 47 TxIN2/RED2 (in), 48 TxIN3/RED3 (in)
part B pins: 2 VCC1 (power), 5 GND1 (power), 8 VCC2 (power), 11 GND2 (power), 14 R_FB (power), 17 GND3 (power), 21 VCC4 (power), 24 GND4 (power), 27 PWRDWN# (in), 28 GND-PLL2 (power), 29 VCC-PLL (power), 30 GND-PLL1 (power), 31 GND-LVDS3 (power), 36 GND-LVDS2 (power), 37 VCC-LVDS (power), 42 GND-LVDS1 (power), 43 NC, 46 GND5 (power)
part A text: 1 of 2
part B text: 2 of 2

## IC-NXP-CBTL02042A
designator IC?, comment CBTL02042A
Analog Switch CBTL02042A; Manufacturer Name: NXP; Manufacturer Part No.: CBTL02042A
footprint QFN50P250X450X100-20N (QFN, 20-Leads, Body 4.4x2.4mm (max), Pitch 0.50mm, IPC Medium Density)
pins: 1 VDD, 2 XSD, 3 A0_P, 4 A0_N, 5 GND, 6 VDD, 7 A1_P, 8 A1_N, 9 SEL, 10 VDD, 11 GND, 12 C1_N, 13 C1_P, 14 C0_N, 15 C0_P, 16 B1_N, 17 B1_P, 18 B0_N, 19 B0_P, 20 GND, 21 GPAD

## IC-NXP-IP4791CZ12
designator IC?, comment IP4791CZ12
HDMI ESD protection, level shifter and backdrive protection; Manufacturer Name: NXP; Manufacturer Part No.: IP4791CZ12
footprint T_NXP_IP4791CZ12 (HDMI ESD protection, level shifter and backdrive protection- SOT1156-1)
pins: 1 CEC_IN (io), 2 SCL_IN (in), 3 SDA_IN (io), 4 VCC_LOW (power), 5 HDMI_5V_IN (power), 6 HPD_OUT (out), 7 HPD_IN (in), 8 HDMI_5V_OUT (power), 9 ACTIVE (power), 10 SDA_OUT (io), 11 SCL_OUT (out), 12 CEC_OUT (io), 13 GND
text: SYSTEM; CONNECTOR

## IC-ON-CAT24C02WI-GT3
designator IC?, comment CAT24C02WI-GT3
2K I2Cl EEPROM; Manufacturer Name: ON Semiconductor; Manufacturer Part No.: CAT24C02WI-GT3
footprint SOIC127P600X173-8N
pins: 1 A0, 2 A1, 3 A2, 4 VSS, 5 SDA, 6 SCL, 7 WP, 8 VCC

## IC-ON-NCP511SN33T1G
designator IC?, comment NCP511SN33T1G
NCP511SN33T1G LDO Regulator; Manufacturer Name: ON Semiconductor; Manufacturer Part No.: NCP511SN33T1G
footprint SOT95P279X142-5N
pins: 1 Vin, 2 GND, 3 E, 4 N/C, 5 Vout

## IC-ON-NCP603SN180T1G
designator IC?, comment NCP603SN180T1G
CMOS LDO Regulator; Manufacturer Name: ON; Manufacturer Part No.: NCP603SN180T1G
footprint T_ON_NCP603SN180T1G (SOT 23)
pins: 1 V_IN (power), 2 GND (power), 3 EN, 4 NC, 5 V_OUT

## IC-ON-NCV4264-2ST50T3G
designator IC?, comment L5150BNTR
L5150BNTR LDO Regulator; Manufacturer Name: STMicroelectronics; Manufacturer Part No.: L5150BNTR
footprint T_ON_NCV4264-2ST50T3G (SO4)
pins: 1 Vin, 2 GND, 3 Vout, 4 GND

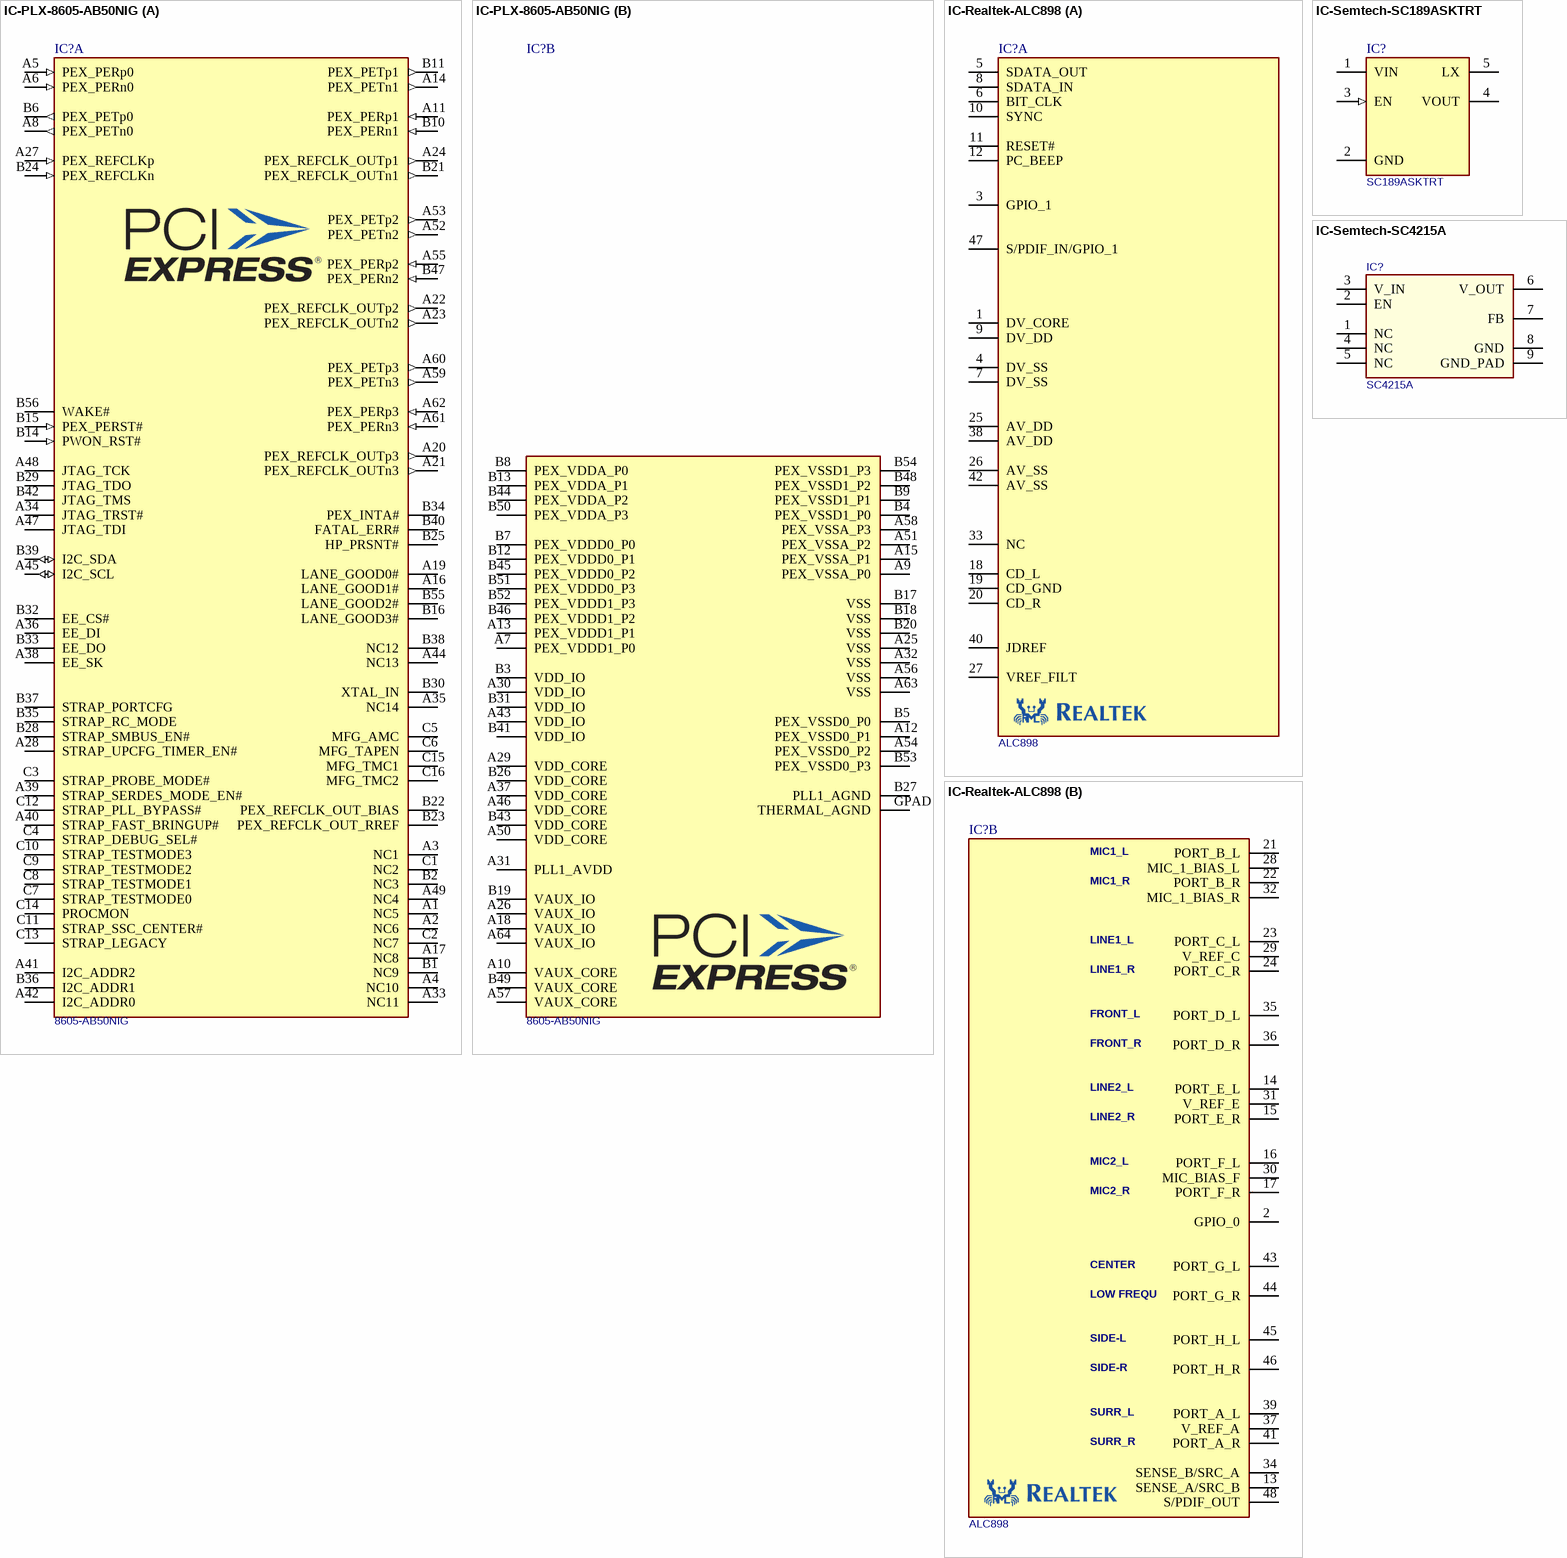
[diagram p17: symbols IC-PLX-8605-AB50NIG to IC-Semtech-SC4215A]

## IC-PLX-8605-AB50NIG
designator IC?, comment 8605-AB50NIG
4 Ports 4 Lane PCIe Gen2 switch; Manufacturer Name: PLX; Manufacturer Part No.: 8605-AB50NIG
footprint QFN50P1000X1000X85-137M (Double Row QFN, 137-Leads, Body 10.0x10.0mm (max), Pitch 0.50mm, IPC Low Density)
part A pins: A1 NC5, A2 NC6, A3 NC1, A4 NC10, A5 PEX_PERp0 (in), A6 PEX_PERn0 (in), A8 PEX_PETn0 (out), A11 PEX_PERp1 (in), A14 PEX_PETn1 (out), A16 LANE_GOOD1#, A17 NC8, A19 LANE_GOOD0#, A20 PEX_REFCLK_OUTp3 (out), A21 PEX_REFCLK_OUTn3 (out), A22 PEX_REFCLK_OUTp2 (out), A23 PEX_REFCLK_OUTn2 (out), A24 PEX_REFCLK_OUTp1 (out), A27 PEX_REFCLKp (in), A28 STRAP_UPCFG_TIMER_EN#, A33 NC11, A34 JTAG_TRST#, A35 NC14, A36 EE_DI, A38 EE_SK, A39 STRAP_SERDES_MODE_EN#, A40 STRAP_FAST_BRINGUP#, A41 I2C_ADDR2, A42 I2C_ADDR0, A44 NC13, A45 I2C_SCL (io), A47 JTAG_TDI, A48 JTAG_TCK, A49 NC4, A52 PEX_PETn2 (out), A53 PEX_PETp2 (out), A55 PEX_PERp2 (in), A59 PEX_PETn3 (out), A60 PEX_PETp3 (out), A61 PEX_PERn3 (in), A62 PEX_PERp3 (in), B1 NC9, B2 NC3, B6 PEX_PETp0 (out), B10 PEX_PERn1 (in), B11 PEX_PETp1 (out), B14 PWON_RST# (in), B15 PEX_PERST# (in), B16 LANE_GOOD3#, B21 PEX_REFCLK_OUTn1 (out), B22 PEX_REFCLK_OUT_BIAS, B23 PEX_REFCLK_OUT_RREF, B24 PEX_REFCLKn (in), B25 HP_PRSNT#, B28 STRAP_SMBUS_EN#, B29 JTAG_TDO, B30 XTAL_IN, B32 EE_CS#, B33 EE_DO, B34 PEX_INTA#, B35 STRAP_RC_MODE, B36 I2C_ADDR1, B37 STRAP_PORTCFG, B38 NC12, B39 I2C_SDA (io), B40 FATAL_ERR#, B42 JTAG_TMS, B47 PEX_PERn2 (in), B55 LANE_GOOD2#, B56 WAKE#, C1 NC2, C2 NC7, C3 STRAP_PROBE_MODE#, C4 STRAP_DEBUG_SEL#, C5 MFG_AMC, C6 MFG_TAPEN, C7 STRAP_TESTMODE0, C8 STRAP_TESTMODE1, C9 STRAP_TESTMODE2, C10 STRAP_TESTMODE3, C11 STRAP_SSC_CENTER#, C12 STRAP_PLL_BYPASS#, C13 STRAP_LEGACY, C14 PROCMON, C15 MFG_TMC1, C16 MFG_TMC2
part B pins: A7 PEX_VDDD1_P0 (power), A9 PEX_VSSA_P0 (power), A10 VAUX_CORE (power), A12 PEX_VSSD0_P1 (power), A13 PEX_VDDD1_P1 (power), A15 PEX_VSSA_P1 (power), A18 VAUX_IO (power), A25 VSS (power), A26 VAUX_IO (power), A29 VDD_CORE (power), A30 VDD_IO (power), A31 PLL1_AVDD (power), A32 VSS (power), A37 VDD_CORE (power), A43 VDD_IO (power), A46 VDD_CORE (power), A50 VDD_CORE (power), A51 PEX_VSSA_P2 (power), A54 PEX_VSSD0_P2 (power), A56 VSS (power), A57 VAUX_CORE (power), A58 PEX_VSSA_P3 (power), A63 VSS (power), A64 VAUX_IO (power), B3 VDD_IO (power), B4 PEX_VSSD1_P0 (power), B5 PEX_VSSD0_P0 (power), B7 PEX_VDDD0_P0 (power), B8 PEX_VDDA_P0 (power), B9 PEX_VSSD1_P1 (power), B12 PEX_VDDD0_P1 (power), B13 PEX_VDDA_P1 (power), B17 VSS (power), B18 VSS (power), B19 VAUX_IO (power), B20 VSS (power), B26 VDD_CORE (power), B27 PLL1_AGND (power), B31 VDD_IO (power), B41 VDD_IO (power), B43 VDD_CORE (power), B44 PEX_VDDA_P2 (power), B45 PEX_VDDD0_P2 (power), B46 PEX_VDDD1_P2 (power), B48 PEX_VSSD1_P2 (power), B49 VAUX_CORE (power), B50 PEX_VDDA_P3 (power), B51 PEX_VDDD0_P3 (power), B52 PEX_VDDD1_P3 (power), B53 PEX_VSSD0_P3 (power), B54 PEX_VSSD1_P3 (power), GPAD THERMAL_AGND (power)

## IC-Realtek-ALC898
designator IC?, comment ALC898
HD_AUDIO_CODEC; Manufacturer Name.: Realtek; Manufacturer Part No.: ALC898
footprint TSQFP50P900X900X160-48N (TSQFP, 48-Leads, Body 9.0x9.0mm (max), Pitch 0.50mm, IPC Medium Density)
part A pins: 1 DV_CORE, 3 GPIO_1, 4 DV_SS, 5 SDATA_OUT, 6 BIT_CLK, 7 DV_SS, 8 SDATA_IN, 9 DV_DD, 10 SYNC, 11 RESET#, 12 PC_BEEP, 18 CD_L, 19 CD_GND, 20 CD_R, 25 AV_DD, 26 AV_SS, 27 VREF_FILT, 33 NC, 38 AV_DD, 40 JDREF, 42 AV_SS, 47 S/PDIF_IN/GPIO_1
part B pins: 2 GPIO_0, 13 SENSE_A/SRC_B, 14 PORT_E_L, 15 PORT_E_R, 16 PORT_F_L, 17 PORT_F_R, 21 PORT_B_L, 22 PORT_B_R, 23 PORT_C_L, 24 PORT_C_R, 28 MIC_1_BIAS_L, 29 V_REF_C, 30 MIC_BIAS_F, 31 V_REF_E, 32 MIC_1_BIAS_R, 34 SENSE_B/SRC_A, 35 PORT_D_L, 36 PORT_D_R, 37 V_REF_A, 39 PORT_A_L, 41 PORT_A_R, 43 PORT_G_L, 44 PORT_G_R, 45 PORT_H_L, 46 PORT_H_R, 48 S/PDIF_OUT
part B text: MIC1_L; MIC1_R; LINE1_L; LINE1_R; FRONT_L; FRONT_R; LINE2_L; LINE2_R; MIC2_L; MIC2_R; CENTER; LOW FREQU; SIDE-L; SIDE-R; SURR_L; SURR_R

## IC-Semtech-SC189ASKTRT
designator IC?, comment SC189ASKTRT
SC189ASKTRT 1.5A Synchronous  Step Down Regulator; Manufacturer Name: Semtech; Manufacturer Part No.: SC189ASKTRT
footprint SOT95P279X142-5N
pins: 1 VIN (power), 2 GND (power), 3 EN (in), 4 VOUT (power), 5 LX (power)

## IC-Semtech-SC4215A
designator IC?  Manufacturer Part No.: SC4215A  (hidden comment: IC-Semtech-SC4215A)
LDO TO 2A; Manufacturer Name: Semtech
footprint SOIC127P650X175_HS-8N (SOIC, 8-Leads, Body 5.0x4.0mm (max), Pitch 1.27mm, IPC Medium Density)
pins: 1 NC, 2 EN, 3 V_IN, 4 NC, 5 NC, 6 V_OUT, 7 FB, 8 GND, 9 GND_PAD

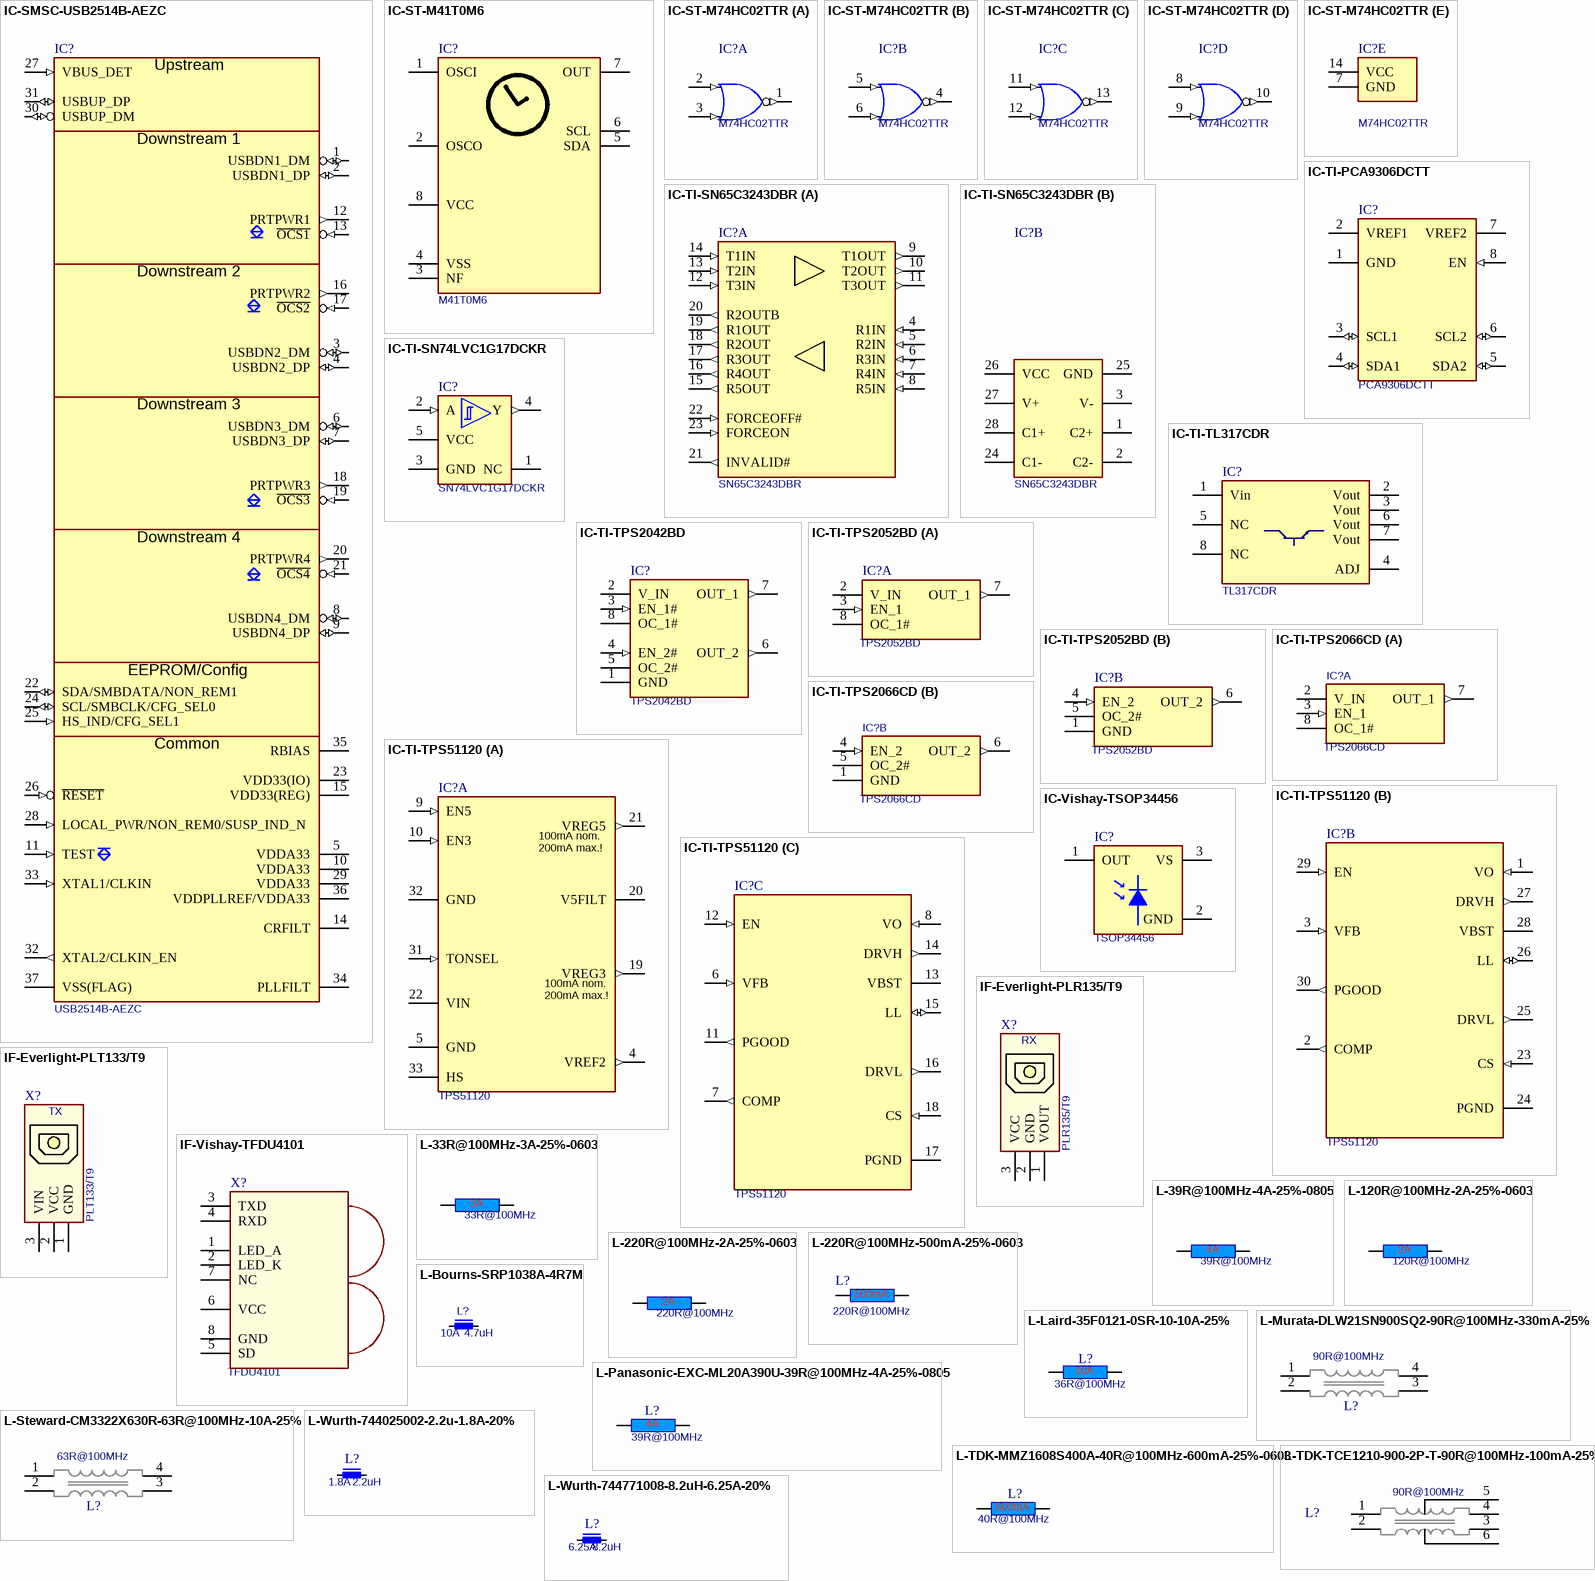
[diagram p18: symbols IC-SMSC-USB2514B-AEZC to L-Wurth-744771008-8.2uH-6.25A-20%]

## IC-SMSC-USB2514B-AEZC
designator IC?, comment Manufacturer Part No.: USB2514B-AEZC  (hidden comment: USB2514B)
4 Port USB HUB; Manufacturer Name: SMSC
footprint T_SMSC_USB2514B-AEZC (QFN, 36-Leads, Body 6x6mm, Pitch 0.5mm, IPC High Density)
pins: 1 USBDN1_DM (io), 2 USBDN1_DP (io), 3 USBDN2_DM (io), 4 USBDN2_DP (io), 5 VDDA33 (power), 6 USBDN3_DM (io), 7 USBDN3_DP (io), 8 USBDN4_DM (io), 9 USBDN4_DP (io), 10 VDDA33 (power), 11 TEST (in), 12 PRTPWR1 (out), 13 ~{OCS1} (in), 14 CRFILT (power), 15 VDD33(REG) (power), 16 PRTPWR2 (out), 17 ~{OCS2} (in), 18 PRTPWR3 (out), 19 ~{OCS3} (in), 20 PRTPWR4 (out), 21 ~{OCS4} (in), 22 SDA/SMBDATA/NON_REM1 (io), 23 VDD33(IO) (power), 24 SCL/SMBCLK/CFG_SEL0 (io), 25 HS_IND/CFG_SEL1 (in), 26 ~{RESET} (in), 27 VBUS_DET (in), 28 LOCAL_PWR/NON_REM0/SUSP_IND_N (in), 29 VDDA33 (power), 30 USBUP_DM (io), 31 USBUP_DP (io), 32 XTAL2/CLKIN_EN (out), 33 XTAL1/CLKIN (in), 34 PLLFILT (power), 35 RBIAS, 36 VDDPLLREF/VDDA33 (power), 37 VSS(FLAG) (power)
text: Upstream; Downstream 1; Downstream 2; Downstream 3; Downstream 4; EEPROM/Config; Common

## IC-ST-M41T0M6
designator IC?, comment M41T0M6
RTC M41T0M6; Manufacturer Name: ST; Manufacturer Part No.: M41T0M6
footprint SOIC127P600X173-8N
pins: 1 OSCI, 2 OSCO, 3 NF, 4 VSS, 5 SDA, 6 SCL, 7 OUT, 8 VCC

## IC-ST-M74HC02TTR
designator IC?, comment M74HC02TTR
Quad 2-Input NOR Gate; Manufacturer Name: ST Microelectronics; Manufacturer part No.: M74HC02TTR
footprint T_ST_M74HC02TTR (Shrink Small Outline; 14 Leads; Body Width 4.4 mm; Pitch 0.65 mm)
part A pins: 1 ~{O} (out), 2 A (in), 3 B (in)
part B pins: 4 ~{O} (out), 5 A (in), 6 B (in)
part C pins: 11 A (in), 12 B (in), 13 ~{O} (out)
part D pins: 8 A (in), 9 B (in), 10 ~{O} (out)
part E pins: 7 GND (power), 14 VCC (power)

## IC-TI-PCA9306DCTT
designator IC?, comment PCA9306DCTT
Dual Bidirectional I2C and SMBus Voltage-Level Translator; Manufacturer Name: Texas Instruments; Manufacturer Part No.: PCA9306DCTT
footprint T_TI_PCA9306DCTT (Dual Bidirectional I2C and SMBus Voltage-Level Translator)
pins: 1 GND (power), 2 VREF1 (power), 3 SCL1 (io), 4 SDA1 (io), 5 SDA2 (io), 6 SCL2 (io), 7 VREF2 (power), 8 EN (in)

## IC-TI-SN65C3243DBR
designator IC?, comment SN65C3243DBR
RS-232 Serial Transceiver; Manufacturer Name: Texas Instruments; Manufacturer Part No.: SN65C3243DBR
footprint SOP65P780X200-28N
part A pins: 4 R1IN (in), 5 R2IN (in), 6 R3IN (in), 7 R4IN (in), 8 R5IN (in), 9 T1OUT (out), 10 T2OUT (out), 11 T3OUT (out), 12 T3IN (in), 13 T2IN (in), 14 T1IN (in), 15 R5OUT (out), 16 R4OUT (out), 17 R3OUT (out), 18 R2OUT (out), 19 R1OUT (out), 20 R2OUTB (out), 21 INVALID# (out), 22 FORCEOFF# (in), 23 FORCEON (in)
part B pins: 1 C2+ (power), 2 C2- (power), 3 V- (power), 24 C1- (power), 25 GND (power), 26 VCC (power), 27 V+ (power), 28 C1+ (power)

## IC-TI-SN74LVC1G17DCKR
designator IC?, comment SN74LVC1G17DCKR
Single Schmitt-Trigger Buffer; Manufacturer Name: Texas Instruments; Manufacturer Part No.: SN74LVC1G17DCKR
footprint SOT65P210X110-5N
pins: 1 NC, 2 A (in), 3 GND (power), 4 Y (out), 5 VCC (power)

## IC-TI-TL317CDR
designator IC?, comment TL317CDR
TL317CDR LDO Regulator; Manufacturer Name: Texas Instruments; Manufacturer Part No.: TL317CDR
footprint SOIC127P600X173-8N
pins: 1 Vin, 2 Vout, 3 Vout, 4 ADJ, 5 NC, 6 Vout, 7 Vout, 8 NC

## IC-TI-TPS2042BD
designator IC?, comment TPS2042BD
Dual High Side Switch With OC_DET 500mA/CH; Manufacturer Name: Texas Instruments; Manufacturer Part No.: TPS2042BD
footprint SOIC127P600X173-8N
pins: 1 GND (power), 2 V_IN (power), 3 EN_1# (in), 4 EN_2# (in), 5 OC_2#, 6 OUT_2 (out), 7 OUT_1 (out), 8 OC_1#

## IC-TI-TPS2052BD
designator IC?, comment TPS2052BD
Dual High Side Switch With OC_DET 500mA/CH; Manufacturer Name: Texas Instruments; Manufacturer Part No.: TPS2052BD
footprint SOIC127P600X173-8N
part A pins: 2 V_IN (power), 3 EN_1 (in), 7 OUT_1 (out), 8 OC_1#
part B pins: 1 GND (power), 4 EN_2 (in), 5 OC_2#, 6 OUT_2 (out)

## IC-TI-TPS2066CD
designator IC?, comment TPS2066CD
1A Dual High Side Switch (Current Limiting (Fixed), Over Temperature, Reverse Current, UVLO); Manufacturer Name: Texas Instruments; Manufacturer Part No.: TPS2066CD
footprint SOIC127P600X173-8N
part A pins: 2 V_IN (power), 3 EN_1 (in), 7 OUT_1 (out), 8 OC_1#
part B pins: 1 GND (power), 4 EN_2 (in), 5 OC_2#, 6 OUT_2 (out)

## IC-TI-TPS51120
designator IC?, comment TPS51120
Power Supply Controller; Manufacturer Name: Texas Instruments; Manufacturer Part No.: TPS51120
footprint QFN50P500X500X100-33N
part A pins: 4 VREF2 (out), 5 GND (power), 9 EN5 (in), 10 EN3 (in), 19 VREG3 (out), 20 V5FILT (power), 21 VREG5 (out), 22 VIN (power), 31 TONSEL (in), 32 GND (power), 33 HS
part B pins: 1 VO (in), 2 COMP (out), 3 VFB (in), 23 CS (in), 24 PGND (power), 25 DRVL (out), 26 LL (io), 27 DRVH (out), 28 VBST (power), 29 EN (in), 30 PGOOD (out)
part C pins: 6 VFB (in), 7 COMP (out), 8 VO (in), 11 PGOOD (out), 12 EN (in), 13 VBST, 14 DRVH (out), 15 LL (io), 16 DRVL (out), 17 PGND (power), 18 CS (in)
part A text: 100mA nom.; 200mA max.!

## IC-Vishay-TSOP34456
designator IC?, comment TSOP34456
IC IR RCVR MOD  DOME AXIAL; Manufacturer Name: Vishay Semiconductors; Manufacturer Part No.: TSOP34456
footprint T_Vishay_TSOP3xx_series (IR Receiver Module for Remote Control Systems)
pins: 1 OUT, 2 GND, 3 VS

## IF-Everlight-PLR135/T9
designator X?, comment PLR135/T9
Photolink- Fiber Optic Transmitter; Manufacturer Name: Everlight; No. of ways: 3; Manufacturer Part No.: PLR135/T9
footprint T_EVERLIGHT_PLT133/T9 (USB Type B Connectors)
pins: 1 VOUT, 2 GND, 3 VCC
text: RX

## IF-Everlight-PLT133/T9
designator X?, comment PLT133/T9
Photolink- Fiber Optic Transmitter; Manufacturer Name: Everlight; No. of ways: 3; Manufacturer Part No.: PLT133/T9
footprint T_EVERLIGHT_PLT133/T9 (USB Type B Connectors)
pins: 1 GND, 2 VCC, 3 VIN
text: TX

## IF-Vishay-TFDU4101
designator X?  Manufacturer Part No.: TFDU4101
Vishay TFDU4101 Infrared Transceiver; Manufacturer Name: Vishay
footprint T_Vishay_TFDU4101 (Infrared Transceiver Module)
pins: 1 LED_A, 2 LED_K, 3 TXD, 4 RXD, 5 SD, 6 VCC, 7 NC, 8 GND

## L-33R@100MHz-3A-25%-0603
designator L?, comment 33R@100MHz
33R@100MHz 3A EMI FILTER; Tolerance: 25%; Rating: 3A; Value: 33R@100MHz
footprint INDC1608X95N
pins: 1, 2

## L-39R@100MHz-4A-25%-0805
designator L?, comment 39R@100MHz
39R@100MHz 4A EMI FILTER; Tolerance: 25%; Rating: 4A; Value: 39R@100MHz
footprint SMD0805RES
pins: 1, 2

## L-120R@100MHz-2A-25%-0603
designator L?, comment 120R@100MHz
120R@100MHz 2A EMI FILTER; Tolerance: 25%; Rating: 2A; Value: 120R@100MHz
footprint INDC1608X95N
pins: 1, 2

## L-220R@100MHz-2A-25%-0603
designator L?, comment 220R@100MHz
220R@100MHz 2A EMI FILTER; Tolerance: 25%; Rating: 2A; Value: 220R@100MHz
footprint INDC1608X95N
pins: 1, 2

## L-220R@100MHz-500mA-25%-0603
designator L?, comment 220R@100MHz
220R@100MHz 500mA EMI FILTER; Tolerance: 25%; Rating: 500mA; Value: 220R@100MHz
footprint INDC1608X95N
pins: 1, 2

## L-Bourns-SRP1038A-4R7M
designator L?, comment Rating: 10A  (hidden comment: 4.7uH)
Inductor 4.7uH 10A 20% 15.5 mOhm -40°C to125°C; Manufacturer Name: Bourns; Manufacturer Part No.: SRP1038A-4R7M; Tolerance: 20%; DC Resistance: 15.5 mOhm; Value: 4.7uH
footprint T_INDM110100 (Inductor shielded, 11mm x 10mm (Bourns, SRP1038A; Vishay, IHLP4040DZ-8A))
pins: 1, 2

## L-Laird-35F0121-0SR-10-10A-25%
designator L?, comment 36R@100MHz
Power Supply FB 10A; Tolerance: 25%; Rating: 10A; Value: 36R@100MHz
footprint T_Laird_35F0121-0SR-10 (Power supply FB 10A)
pins: 1, 2

## L-Murata-DLW21SN900SQ2-90R@100MHz-330mA-25%
designator L?, comment 90R@100MHz
Common Mode Choke High Speed 90R 330mA; Manufacturer Name: Murata; Manufacturer Part No.: DLW21SN900SQ2; Tolerance: 25%; Rating: 330mA; Value: 90R@100MHz
footprint T_Murata_DLW21SN900SQ2 (Common Mode Choke)
pins: 1, 2, 3, 4

## L-Panasonic-EXC-ML20A390U-39R@100MHz-4A-25%-0805
designator L?, comment 39R@100MHz
39R@100MHz 4A EMI FILTER; Manufacturer Name: Panasonic; Manufacturer Name: EXC-ML20A390U; Tolerance: 25%; Rating: 4A; Value: 39R@100MHz
footprint SMD0805RES
pins: 1, 2

## L-Steward-CM3322X630R-63R@100MHz-10A-25%
designator L?, comment 63R@100MHz
Common Mode Choke 63R 10A; Manufacturer Name: Steward; Manufacturer Part No.: CM3322X630R-10; Tolerance: 25%; Rating: 10A; Value: 63R@100MHz
footprint T_Steward_CM3322X630R-10 (Common Mode Choke)
pins: 1, 2, 3, 4

## L-TDK-MMZ1608S400A-40R@100MHz-600mA-25%-0603
designator L?, comment 40R@100MHz
40R@100MHz 600mA EMI FILTER; Manufacturer Part No.: MMZ1608S400A; Manufacturer Name: TDK; Tolerance: 25%; Rating: 600mA; Value: 40R@100MHz
footprint INDC1608X95N
pins: 1, 2

## L-TDK-TCE1210-900-2P-T-90R@100MHz-100mA-25%
designator L?, comment 90R@100MHz
Common Mode Choke Super Speed 90R 100mA; Manufacturer Name: TDK; Manufacturer Part No.: TCE1210-900-2P-T; Tolerance: 25%; Rating: 100mA; Value: 90R@100MHz
footprint T_TDK_TCE1210-900-2P-T (Common Mode Choke Super Speed)
pins: 1, 2, 3, 4, 5, 6

## L-Wurth-744025002-2.2u-1.8A-20%
designator L?, comment Rating: 1.8A  (hidden comment: 2.2uH)
Power Choke 744025002-2.2u-1.8A-20%; Manufacturer Name: Wurth; Tolerance: 20%; Manufacturer Part No.: 744025002; Value: 2.2uH
footprint T_WURTH_744025002 (POWER-CHOKE)
pins: 1, 2

## L-Wurth-744771008-8.2uH-6.25A-20%
designator L?, comment Rating: 6.25A  (hidden comment: 8.2uH)
Inductance 8.2uH 6.25A 20%; Manufacturer Name: Wurth; Manufacturer Part No.: 744771008; Tolerance: 20%; Value: 8.2uH
footprint T_INDM120120X80N
pins: 1, 2

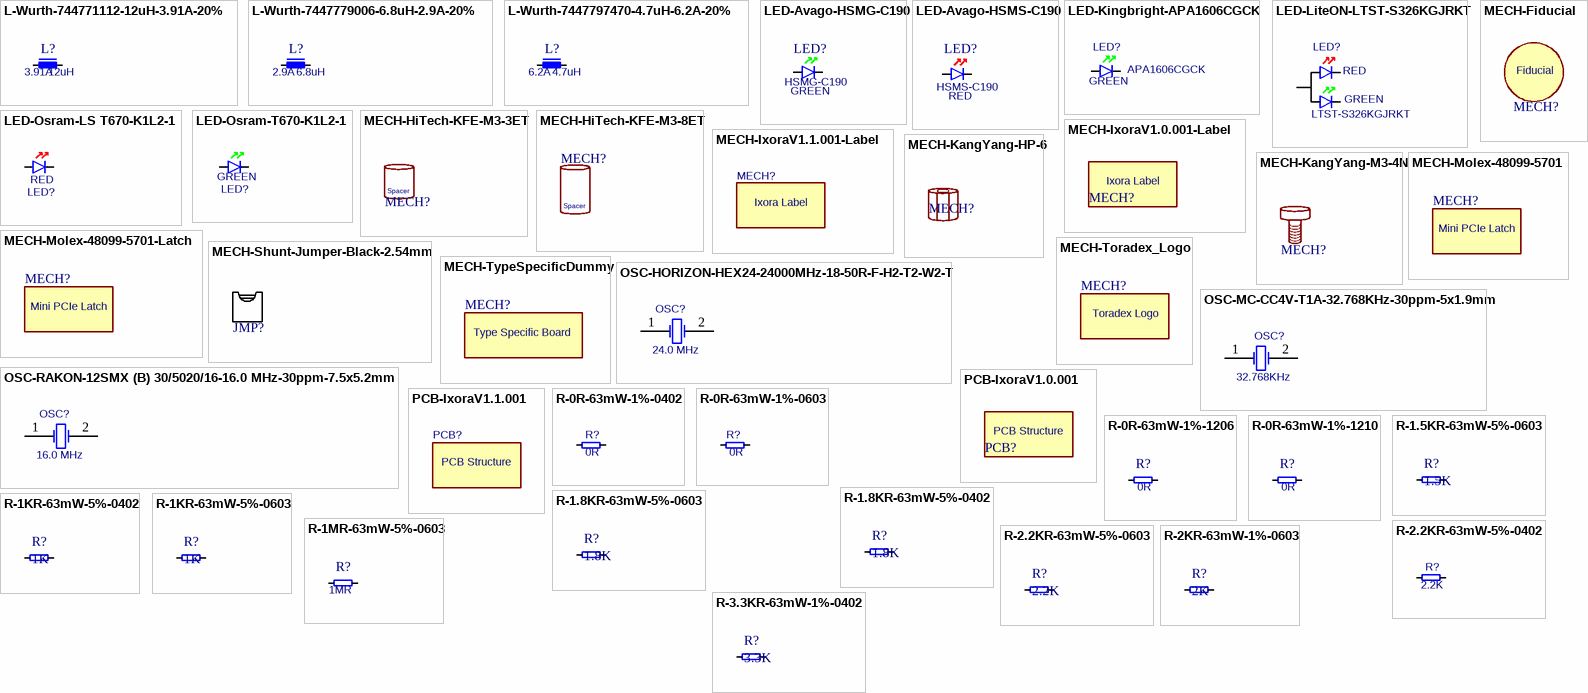
[diagram p19: symbols L-Wurth-744771112-12uH-3.91A-20% to R-3.3KR-63mW-1%-0402]

## L-Wurth-744771112-12uH-3.91A-20%
designator L?, comment Rating: 3.91A  (hidden comment: 12uH)
Inductance 12uH 3.91A 20%; Manufacturer Name: Wurth; Manufacturer Part No.: 744771112; Tolerance: 20%; Value: 12uH
footprint T_INDM120120X80N
pins: 1, 2

## L-Wurth-7447779006-6.8uH-2.9A-20%
designator L?, comment Rating: 2.9A  (hidden comment: 6.8uH)
Inductance 6.8uH 2.9A 20%; Manufacturer Name: Wurth; Manufacturer Part No.: 7447779006; Tolerance: 20%; Value: 6.8uH
footprint T_INDM7373X45N
pins: 1, 2

## L-Wurth-7447797470-4.7uH-6.2A-20%
designator L?, comment Rating: 6.2A  (hidden comment: 4.7uH)
Inductance 4.7uH 6.2A 20%; Manufacturer Name: Wurth; Manufacturer Part No.: 7447797470; Tolerance: 20%; Value: 4.7uH
footprint T_INDM102102X45N
pins: 1, 2

## LED-Avago-HSMG-C190
designator LED?, comment Manufacturer Part No.: HSMG-C190  Color: GREEN  (hidden comment: LED)
Surface mount LED green 20mA; Manufacturer Name: Avago
footprint LEDC1608X80N_G (SMD LED GREEN)
pins: 1 K, 2 A

## LED-Avago-HSMS-C190
designator LED?, comment Manufacturer Part No.: HSMS-C190  Color: RED  (hidden comment: LED)
Surface mount LED red 20mA; Manufacturer Name: Avago
footprint LEDC1608X80N_R (SMD LED RED)
pins: 1 K, 2 A

## LED-Kingbright-APA1606CGCK
designator LED?, comment Color: GREEN  (hidden comment: APA1606CGCK)
LED green Kingbright APA1606CGCK; Manufacturer Name: Kingbright; Manufacturer Part No.: APA1606CGCK
footprint T_Kingbright_APA1606CGCK (LED Kingbright APA1606CGCK Green)
pins: 1 K, 2 A

## LED-LiteON-LTST-S326KGJRKT
designator LED?, comment Color1: GREEN  Color2: RED  (hidden comment: LTST-S326KGJRKT)
LED Green Red LiteON LTST-S326KGJRKT; Manufacturer Name: LiteON; Manufacturer Part No.: LTST-S326KGJRKT
footprint T_LiteON_LTST-S326KGJRKT (LED LiteON LTST-S326KGJRKT Red Green)
pins: A, C1, C2

## LED-Osram-LS T670-K1L2-1
designator LED?, comment Color: RED  (hidden comment: LS T670-K1L2-1)
LED red, Osram LS T670-K1L2-1; Manufacturer Part No.: LS T670-K1L2-1; Manufacturer Name: Osram
footprint T_Osram_T670_RED (LED-Osram-T670)
pins: A, K

## LED-Osram-T670-K1L2-1
designator LED?, comment Color: GREEN  (hidden comment: LG T670-K1L2-1)
LED green Osram LG T670-K1L2-1; Manufacturer Name: Osram; Manufacturer Part No.: LG T670-K1L2-1
footprint T_Osram_T670_GREEN (LED-Osram-T670)
pins: A, K

## MECH-Fiducial
designator MECH?  (value not drawn)  (no BOM)
Fiducial
footprint T_Fiducial (Fiducial)

## MECH-HiTech-KFE-M3-3ET
designator MECH?, comment KFE-M3-3ET  (value not drawn)  (mechanical)
Spacer 3mm M3; Manufacturer Name: Hi-Tech Fasteners Inc; Manufacturer Part No.: KFE-M3-3ET
text: Spacer

## MECH-HiTech-KFE-M3-8ET
designator MECH?, comment KFE-M3-8ET  (value not drawn)  (mechanical)
Spacer 8mm M3; Manufacturer Name: Hi-Tech Fasteners Inc; Manufacturer Part No.: KFE-M3-8ET
text: Spacer

## MECH-IxoraV1.0.001-Label
designator MECH?, comment IxoraV1.0.001-Label  (value not drawn)  (no BOM)
text: Ixora Label

## MECH-IxoraV1.1.001-Label
designator MECH?, comment IxoraV1.1.001-Label  (value not drawn)  (no BOM)
text: Ixora Label

## MECH-KangYang-HP-6
designator MECH?, comment HP-6  (value not drawn)
Plastic Hexagonal Spacer 6 mm/-/-; Manufacturer Name: Kang Yang; Manufacturer Part No.: HP-6

## MECH-KangYang-M3-4N
designator MECH?, comment M3-4N  (value not drawn)
Plastic Tapping Screw M3x4mm/-; Manufacturer Name: Kang Yang; Manufacturer Part No.: M3-4N

## MECH-Molex-48099-5701
designator MECH?, comment MECH-Mini-PCIe Latch  (value not drawn)
Mini-PCIe Latch; Manufacturer Name: Molex; Manufacturer Part No.: 48099-5701
footprint T_Molex_48099-5701 (Footprint not found)
text: Mini PCIe Latch

## MECH-Molex-48099-5701-Latch
designator MECH?, comment MECH-Mini-PCIe Latch  (value not drawn)
Mini-PCIe Latch; Manufacturer Name: Molex; Manufacturer Part No.: 48099-5701
text: Mini PCIe Latch

## MECH-Shunt-Jumper-Black-2.54mm
designator JMP?, comment Shunt Jumper  (value not drawn)  (mechanical)
Manufacturer Name: JVE; Manufacturer Part No.: S1002-OPS60-01G

## MECH-Toradex_Logo
designator MECH?  (value not drawn)  (no BOM)
Toradex_Logo
footprint T_TORADEX_LOGO (Toradex Logo)
text: Toradex Logo

## MECH-TypeSpecificDummy
designator MECH?  (value not drawn)  (no BOM)
PCB Structure
footprint T_TYPE_SPECIFIC_DUMMY (DUMMY TYPE SPECIFIC)
text: Type Specific Board

## OSC-HORIZON-HEX24-24000MHz-18-50R-F-H2-T2-W2-T
designator OSC?, comment value 24.0 MHz  (hidden comment: HEX24-24000MHz-18-50R-F-H2-T2-W2-T)
Quartz 24.0 MHz; Manufacturer Name: HORIZON; Tolerance: 30ppm; Manufacturer Part No.: HEX24-24000MHz-18-50R-F-H2-T2-W2-T
footprint T_HORIZON-HEX24 (OSC)
pins: 1 OSC1, 2 OSC2

## OSC-MC-CC4V-T1A-32.768KHz-30ppm-5x1.9mm
designator OSC?, comment value 32.768KHz  (hidden comment: CC4V-T1A)
Quartz 32.768kHz; Manufacturer Name: Micro Crystal; Tolerance: 30ppm; Manufacturer Part No.: CC4V-T1A
footprint T_MC_CC4V-T1A
pins: 1 OSC1, 2 OSC2

## OSC-RAKON-12SMX (B) 30/5020/16-16.0 MHz-30ppm-7.5x5.2mm
designator OSC?, comment value 16.0 MHz  (hidden comment: 12SMX (B) 30/5020/16)
Quartz 16.0 MHz; Manufacturer Name: RAKON; Tolerance: 30ppm; Manufacturer Part No.: 12SMX (B) 30/5020/16
footprint T_RAKON_12SMX (OSC)
pins: 1 OSC1, 2 OSC2

## PCB-IxoraV1.0.001
designator PCB?  (value not drawn)
PCB Structure

## PCB-IxoraV1.1.001
designator PCB?  (value not drawn)
PCB Structure

## R-0R-63mW-1%-0402
designator R?, comment 0R
Resistor 0 ohm 63mW 1% 0603; Rating: 63mW; Tolerance: 1%; Value: 0R
footprint SMD0603RES
pins: 1, 2

## R-0R-63mW-1%-0603
designator R?, comment 0R
Resistor 0 ohm 63mW 1% 0603; Rating: 63mW; Tolerance: 1%; Value: 0R
footprint SMD0603RES
pins: 1, 2

## R-0R-63mW-1%-1206
designator R?, comment 0R
Resistor 0 ohm 63mW 1% 1206; Rating: 63mW; Tolerance: 1%; Value: 0R
footprint SMD1206RES
pins: 1, 2

## R-0R-63mW-1%-1210
designator R?, comment 0R
Resistor 0 ohm 63mW 1% 1210; Rating: 63mW; Tolerance: 1%; Value: 0R
footprint SMD1210RES
pins: 1, 2

## R-1.5KR-63mW-5%-0603
designator R?, comment 1.5K
Resistor 1.5 Kohm 63mW 5% 0603; Value: 1.5KR; Rating: 63mW; Tolerance: 5%
footprint SMD0603RES
pins: 1, 2

## R-1.8KR-63mW-5%-0402
designator R?, comment 1.8K
Resistor 1.8 Kohm 63mW 5% 0603; Value: 1.8KR; Rating: 63mW; Tolerance: 5%
footprint SMD0603RES
pins: 1, 2

## R-1.8KR-63mW-5%-0603
designator R?, comment 1.8K
Resistor 1.8 Kohm 63mW 5% 0603; Value: 1.8KR; Rating: 63mW; Tolerance: 5%
footprint SMD0603RES
pins: 1, 2

## R-1KR-63mW-5%-0402
designator R?, comment 1K
Resistor 1 Kohm 63mW 5% 0603; Rating: 63mW; Tolerance: 5%; Value: 1K
footprint SMD0603RES
pins: 1, 2

## R-1KR-63mW-5%-0603
designator R?, comment 1K
Resistor 1 Kohm 63mW 5% 0603; Rating: 63mW; Tolerance: 5%; Value: 1K
footprint SMD0603RES
pins: 1, 2

## R-1MR-63mW-5%-0603
designator R?, comment 1MR
Resistor 1Mohm 63mW 5% 0603; Rating: 63mW; Tolerance: 5%; Value: 1MR
footprint SMD0603RES
pins: 1, 2

## R-2.2KR-63mW-5%-0402
designator R?, comment 2.2K
Resistor 2.2Kohm 63mW 5% 0603; Value: 2.2KR; Rating: 63mW; Tolerance: 5%
footprint SMD0603RES
pins: 1, 2

## R-2.2KR-63mW-5%-0603
designator R?, comment 2.2K
Resistor 2.2Kohm 63mW 5% 0603; Value: 2.2KR; Rating: 63mW; Tolerance: 5%
footprint SMD0603RES
pins: 1, 2

## R-2KR-63mW-1%-0603
designator R?, comment 2K
Resistor 2Kohm 63mW 1% 0603; Value: 2KR; Rating: 63mW; Tolerance: 1%
footprint SMD0603RES
pins: 1, 2

## R-3.3KR-63mW-1%-0402
designator R?, comment 3.3K
Resistor 3.3 Kohm 63mW 1% 0603; Value: 3.3KR; Rating: 63mW; Tolerance: 1%
footprint SMD0603RES
pins: 1, 2

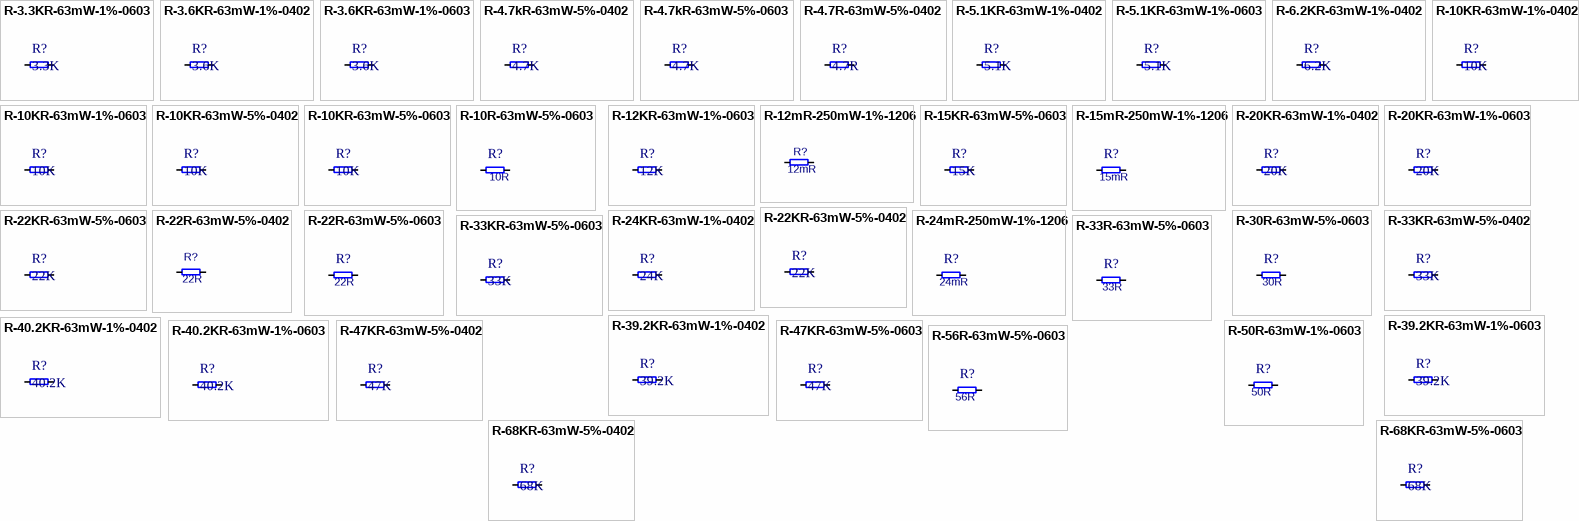
[diagram p20: symbols R-3.3KR-63mW-1%-0603 to R-68KR-63mW-5%-0603]

## R-3.3KR-63mW-1%-0603
designator R?, comment 3.3K
Resistor 3.3 Kohm 63mW 1% 0603; Value: 3.3KR; Rating: 63mW; Tolerance: 1%
footprint SMD0603RES
pins: 1, 2

## R-3.6KR-63mW-1%-0402
designator R?, comment 3.6K
Resistor 3.6 Kohm 63mW 1% 0603; Value: 3.6KR; Rating: 63mW; Tolerance: 1%
footprint SMD0603RES
pins: 1, 2

## R-3.6KR-63mW-1%-0603
designator R?, comment 3.6K
Resistor 3.6 Kohm 63mW 1% 0603; Value: 3.6KR; Rating: 63mW; Tolerance: 1%
footprint SMD0603RES
pins: 1, 2

## R-4.7kR-63mW-5%-0402
designator R?, comment 4.7K
Resistor 4.7 Kohm 63mW 5% 0603; Value: 4.7KR; Rating: 63mW; Tolerance: 5%
footprint SMD0603RES
pins: 1, 2

## R-4.7kR-63mW-5%-0603
designator R?, comment 4.7K
Resistor 4.7 Kohm 63mW 5% 0603; Value: 4.7KR; Rating: 63mW; Tolerance: 5%
footprint SMD0603RES
pins: 1, 2

## R-4.7R-63mW-5%-0402
designator R?, comment 4.7R
Resistor 4.7 ohm 63mW 5% 0603; Rating: 63mW; Tolerance: 5%; Value: 4.7R
footprint SMD0603RES
pins: 1, 2

## R-5.1KR-63mW-1%-0402
designator R?, comment 5.1K
Resistor 5.1 Kohm 63mW 1% 0603; Value: 5.1KR; Rating: 63mW; Tolerance: 1%
footprint SMD0603RES
pins: 1, 2

## R-5.1KR-63mW-1%-0603
designator R?, comment 5.1K
Resistor 5.1 Kohm 63mW 1% 0603; Value: 5.1KR; Rating: 63mW; Tolerance: 1%
footprint SMD0603RES
pins: 1, 2

## R-6.2KR-63mW-1%-0402
designator R?, comment 6.2K
Resistor 6.2 Kohm 63mW 1% 0603; Value: 6.2KR; Rating: 63mW; Tolerance: 1%
footprint SMD0603RES
pins: 1, 2

## R-10KR-63mW-1%-0402
designator R?, comment 10K
Resistor 10 Kohm 63mW 1% 0603; Value: 10KR; Rating: 63mW; Tolerance: 1%
footprint SMD0603RES
pins: 1, 2

## R-10KR-63mW-1%-0603
designator R?, comment 10K
Resistor 10 Kohm 63mW 1% 0603; Value: 10KR; Rating: 63mW; Tolerance: 1%
footprint SMD0603RES
pins: 1, 2

## R-10KR-63mW-5%-0402
designator R?, comment 10K
Resistor 10 Kohm 63mW 5% 0603; Value: 10KR; Rating: 63mW; Tolerance: 5%
footprint SMD0603RES
pins: 1, 2

## R-10KR-63mW-5%-0603
designator R?, comment 10K
Resistor 10 Kohm 63mW 5% 0603; Value: 10KR; Rating: 63mW; Tolerance: 5%
footprint SMD0603RES
pins: 1, 2

## R-10R-63mW-5%-0603
designator R?, comment 10R
Resistor 10 ohm 63mW 5% 0603; Rating: 63mW; Tolerance: 5%; Value: 10R
footprint SMD0603RES
pins: 1, 2

## R-12KR-63mW-1%-0603
designator R?, comment 12K
Resistor 12 Kohm 63mW 1% 0603; Value: 12KR; Rating: 63mW; Tolerance: 1%
footprint SMD0603RES
pins: 1, 2

## R-12mR-250mW-1%-1206
designator R?, comment 12mR
Resistor 12 mohm 250mW 1% 1206; Rating: 250mW; Tolerance: 1%; Value: 12mR
footprint SMD1206RES
pins: 1, 2

## R-15KR-63mW-5%-0603
designator R?, comment 15K
Resistor 15 Kohm 63mW 5% 0603; Value: 15KR; Rating: 63mW; Tolerance: 5%
footprint SMD0603RES
pins: 1, 2

## R-15mR-250mW-1%-1206
designator R?, comment 15mR
Resistor 15 mohm 250mW 1% 1206; Rating: 250mW; Tolerance: 1%; Value: 15mR
footprint SMD1206RES
pins: 1, 2

## R-20KR-63mW-1%-0402
designator R?, comment 20K
Resistor 20 Kohm 63mW 1% 0603; Value: 20KR; Rating: 63mW; Tolerance: 1%
footprint SMD0603RES
pins: 1, 2

## R-20KR-63mW-1%-0603
designator R?, comment 20K
Resistor 20 Kohm 63mW 1% 0603; Value: 20KR; Rating: 63mW; Tolerance: 1%
footprint SMD0603RES
pins: 1, 2

## R-22KR-63mW-5%-0402
designator R?, comment 22K
Resistor 22 Kohm 63mW 5% 0603; Value: 22KR; Rating: 63mW; Tolerance: 5%
footprint SMD0603RES
pins: 1, 2

## R-22KR-63mW-5%-0603
designator R?, comment 22K
Resistor 22 Kohm 63mW 5% 0603; Value: 22KR; Rating: 63mW; Tolerance: 5%
footprint SMD0603RES
pins: 1, 2

## R-22R-63mW-5%-0402
designator R?, comment 22R
Resistor 22 ohm 63mW 5% 0603; Rating: 63mW; Tolerance: 5%; Value: 22R
footprint SMD0603RES
pins: 1, 2

## R-22R-63mW-5%-0603
designator R?, comment 22R
Resistor 22 ohm 63mW 5% 0603; Rating: 63mW; Tolerance: 5%; Value: 22R
footprint SMD0603RES
pins: 1, 2

## R-24KR-63mW-1%-0402
designator R?, comment 24K
Resistor 24 Kohm 63mW 1% 0603; Value: 24KR; Rating: 63mW; Tolerance: 1%
footprint SMD0603RES
pins: 1, 2

## R-24mR-250mW-1%-1206
designator R?, comment 24mR
Resistor 24 mohm 250mW 1% 1206; Rating: 250mW; Tolerance: 1%; Value: 24mR
footprint SMD1206RES
pins: 1, 2

## R-30R-63mW-5%-0603
designator R?, comment 30R
Resistor 30 ohm 63mW 5% 0603; Rating: 63mW; Tolerance: 5%; Value: 30R
footprint SMD0603RES
pins: 1, 2

## R-33KR-63mW-5%-0402
designator R?, comment 33K
Resistor 33 Kohm 63mW 5% 0603; Value: 33KR; Rating: 63mW; Tolerance: 5%
footprint SMD0603RES
pins: 1, 2

## R-33KR-63mW-5%-0603
designator R?, comment 33K
Resistor 33 Kohm 63mW 5% 0603; Value: 33KR; Rating: 63mW; Tolerance: 5%
footprint SMD0603RES
pins: 1, 2